# Altium integrated library con-vg.IntLib: 123 symbols (part 4 of 5)

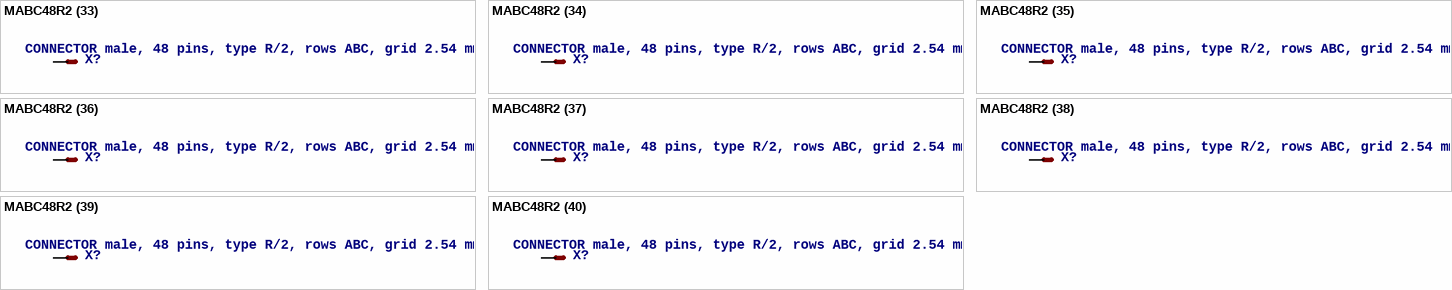
[diagram p69: symbol MABC48R2]

## MABC48R2
designator X?, comment CONNECTOR male, 48 pins, type R/2, rows ABC, grid 2.54 mm
footprint MABC48R2
part A pins: A1 S
part B pins: A2 S
part C pins: A3 S
part D pins: A4 S
part E pins: A5 S
part F pins: A6 S
part G pins: A7 S
part H pins: A8 S
part I pins: A9 S
part J pins: A10 S
part K pins: A11 S
part L pins: A12 S
part M pins: A13 S
part N pins: A14 S
part O pins: A15 S
part P pins: A16 S
part Q pins: B1 S
part R pins: B2 S
part S pins: B3 S
part T pins: B4 S
part U pins: B5 S
part V pins: B6 S
part W pins: B7 S
part X pins: B8 S
part Y pins: B9 S
part Z pins: B10 S
part 27 pins: B11 S
part 28 pins: B12 S
part 29 pins: B13 S
part 30 pins: B14 S
part 31 pins: B15 S
part 32 pins: B16 S
part 33 pins: C1 S
part 34 pins: C2 S
part 35 pins: C3 S
part 36 pins: C4 S
part 37 pins: C5 S
part 38 pins: C6 S
part 39 pins: C7 S
part 40 pins: C8 S
part 41 pins: C9 S
part 42 pins: C10 S
part 43 pins: C11 S
part 44 pins: C12 S
part 45 pins: C13 S
part 46 pins: C14 S
part 47 pins: C15 S
part 48 pins: C16 S

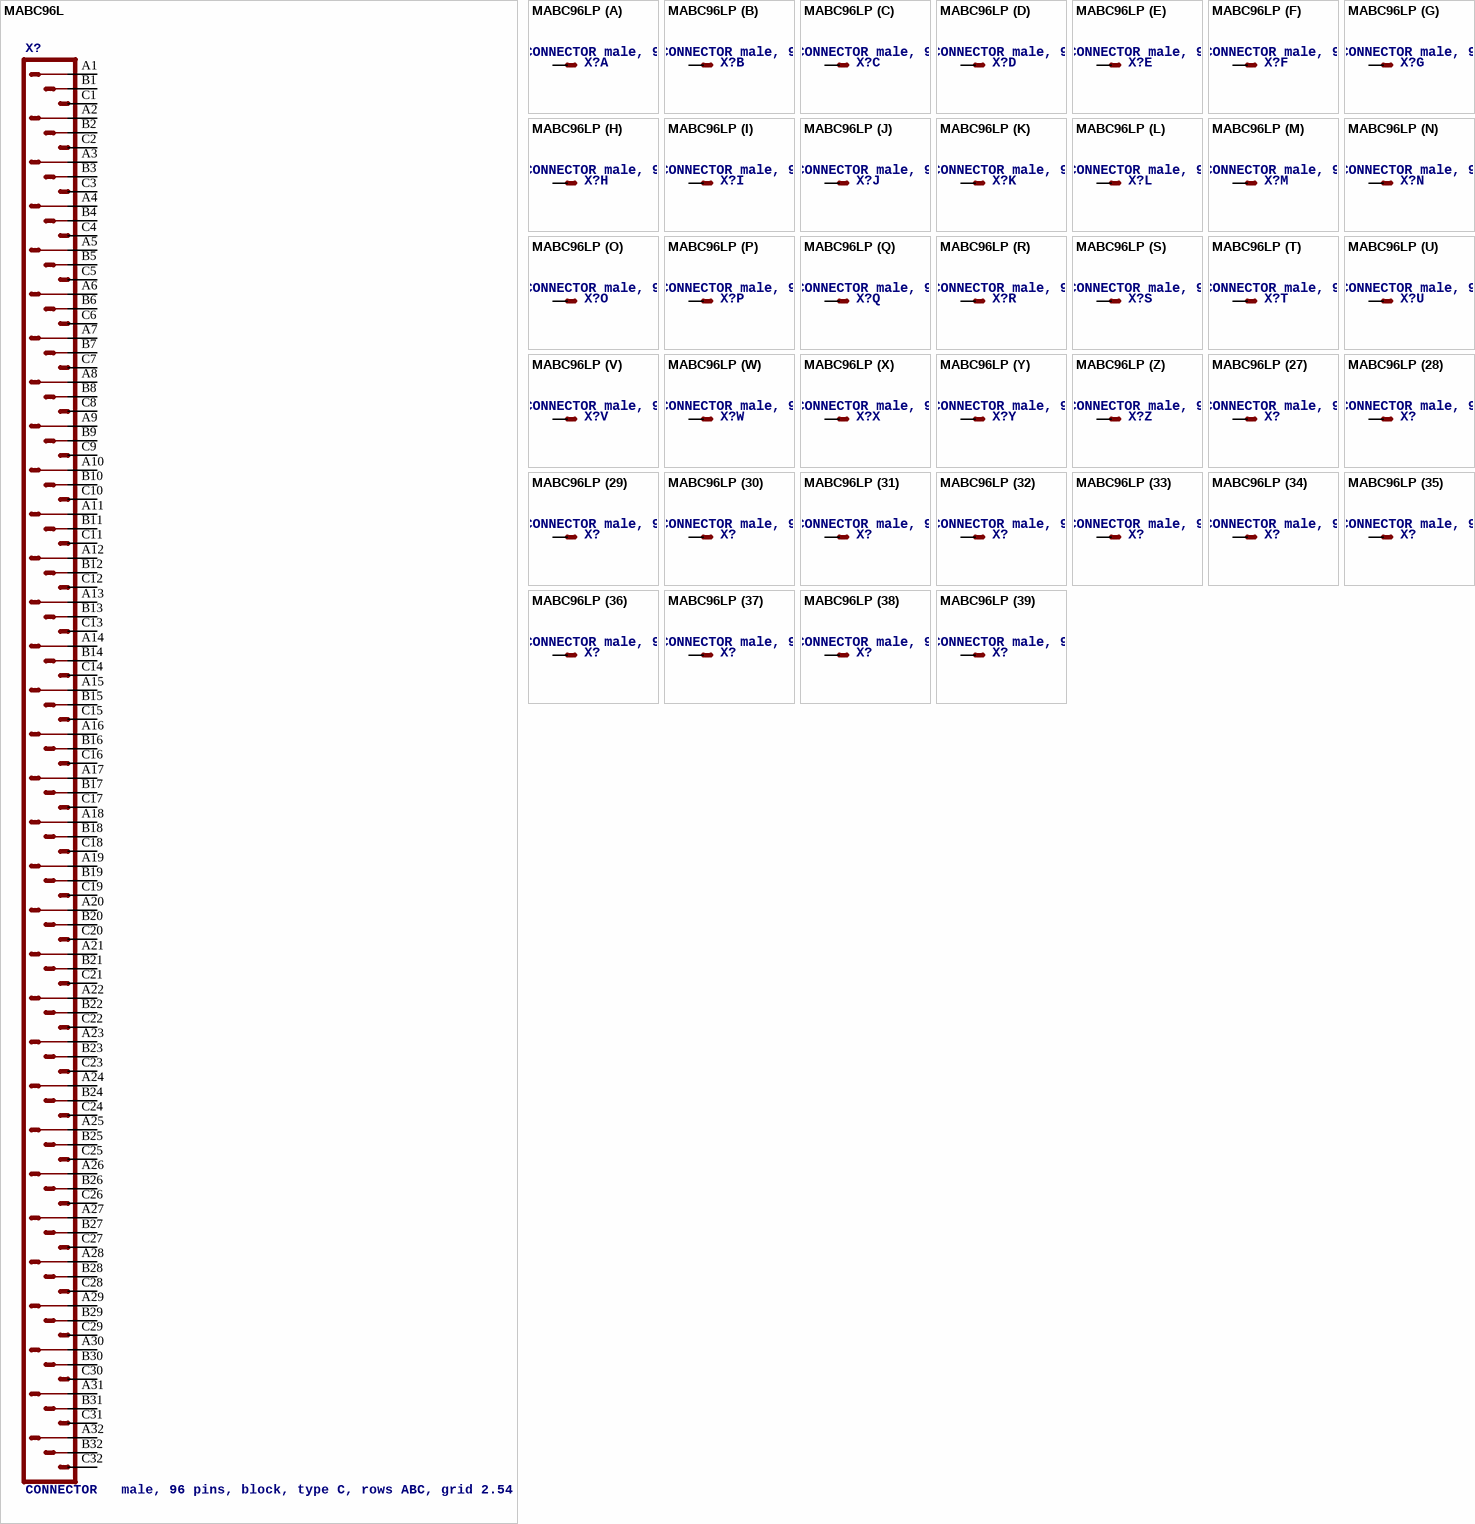
[diagram p70: symbols MABC96L to MABC96LP]

## MABC96L
designator X?, comment CONNECTOR   male, 96 pins, block, type C, rows ABC, grid 2.54 mm
footprint MABC96L
pins: A1, A2, A3, A4, A5, A6, A7, A8, A9, A10, A11, A12, A13, A14, A15, A16, A17, A18, A19, A20, A21, A22, A23, A24, A25, A26, A27, A28, A29, A30, A31, A32, B1, B2, B3, B4, B5, B6, B7, B8, B9, B10, B11, B12, B13, B14, B15, B16, B17, B18, B19, B20, B21, B22, B23, B24, B25, B26, B27, B28, B29, B30, B31, B32, C1, C2, C3, C4, C5, C6, C7, C8, C9, C10, C11, C12, C13, C14, C15, C16, C17, C18, C19, C20, C21, C22, C23, C24, C25, C26, C27, C28, C29, C30, C31, C32

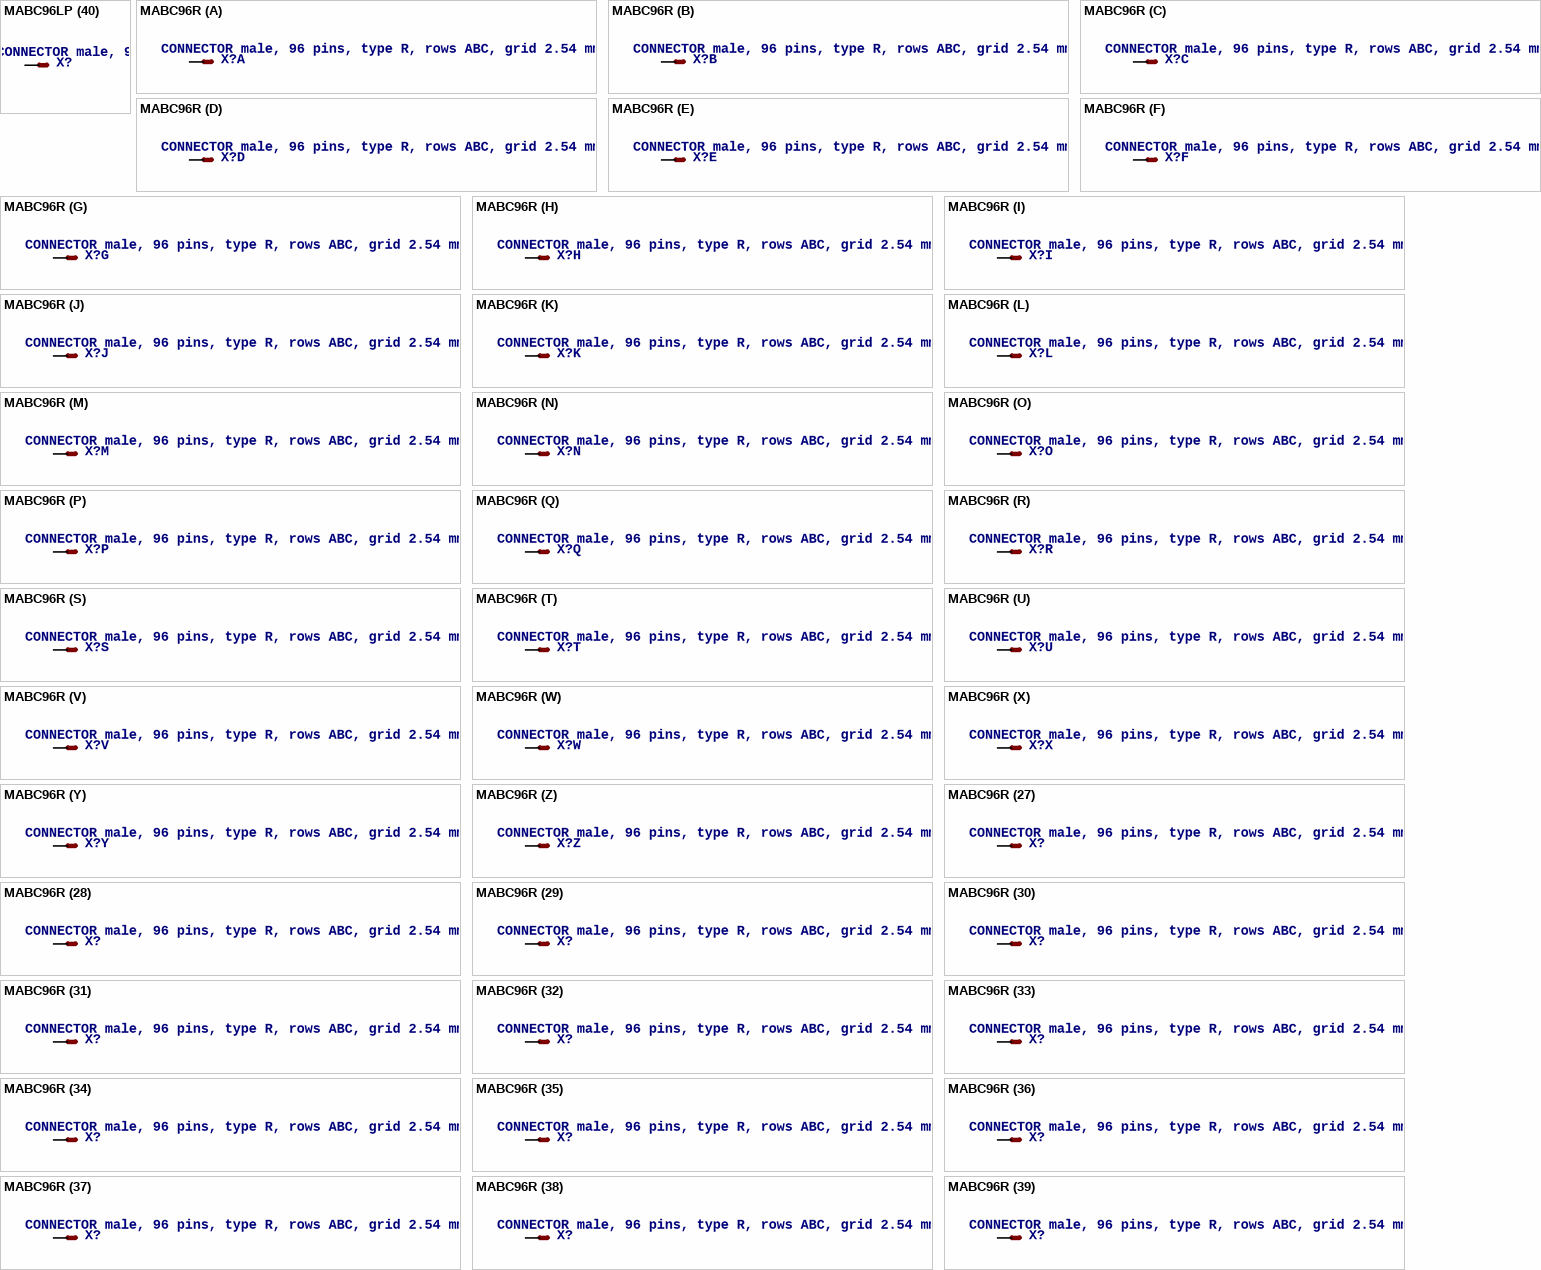
[diagram p71: symbols MABC96LP to MABC96R]

## MABC96LP
designator X?, comment CONNECTOR male, 96 pins, type C, rows ABC, grid 2.54 mm with mounting clip
footprint MABC96LP
part A pins: A1 S
part B pins: A2 S
part C pins: A3 S
part D pins: A4 S
part E pins: A5 S
part F pins: A6 S
part G pins: A7 S
part H pins: A8 S
part I pins: A9 S
part J pins: A10 S
part K pins: A11 S
part L pins: A12 S
part M pins: A13 S
part N pins: A14 S
part O pins: A15 S
part P pins: A16 S
part Q pins: A17 S
part R pins: A18 S
part S pins: A19 S
part T pins: A20 S
part U pins: A21 S
part V pins: A22 S
part W pins: A23 S
part X pins: A24 S
part Y pins: A25 S
part Z pins: A26 S
part 27 pins: A27 S
part 28 pins: A28 S
part 29 pins: A29 S
part 30 pins: A30 S
part 31 pins: A31 S
part 32 pins: A32 S
part 33 pins: B1 S
part 34 pins: B2 S
part 35 pins: B3 S
part 36 pins: B4 S
part 37 pins: B5 S
part 38 pins: B6 S
part 39 pins: B7 S
part 40 pins: B8 S
part 41 pins: B9 S
part 42 pins: B10 S
part 43 pins: B11 S
part 44 pins: B12 S
part 45 pins: B13 S
part 46 pins: B14 S
part 47 pins: B15 S
part 48 pins: B16 S
part 49 pins: B17 S
part 50 pins: B18 S
part 51 pins: B19 S
part 52 pins: B20 S
part 53 pins: B21 S
part 54 pins: B22 S
part 55 pins: B23 S
part 56 pins: B24 S
part 57 pins: B25 S
part 58 pins: B26 S
part 59 pins: B27 S
part 60 pins: B28 S
part 61 pins: B29 S
part 62 pins: B30 S
part 63 pins: B31 S
part 64 pins: B32 S
part 65 pins: C1 S
part 66 pins: C2 S
part 67 pins: C3 S
part 68 pins: C4 S
part 69 pins: C5 S
part 70 pins: C6 S
part 71 pins: C7 S
part 72 pins: C8 S
part 73 pins: C9 S
part 74 pins: C10 S
part 75 pins: C11 S
part 76 pins: C12 S
part 77 pins: C13 S
part 78 pins: C14 S
part 79 pins: C15 S
part 80 pins: C16 S
part 81 pins: C17 S
part 82 pins: C18 S
part 83 pins: C19 S
part 84 pins: C20 S
part 85 pins: C21 S
part 86 pins: C22 S
part 87 pins: C23 S
part 88 pins: C24 S
part 89 pins: C25 S
part 90 pins: C26 S
part 91 pins: C27 S
part 92 pins: C28 S
part 93 pins: C29 S
part 94 pins: C30 S
part 95 pins: C31 S
part 96 pins: C32 S

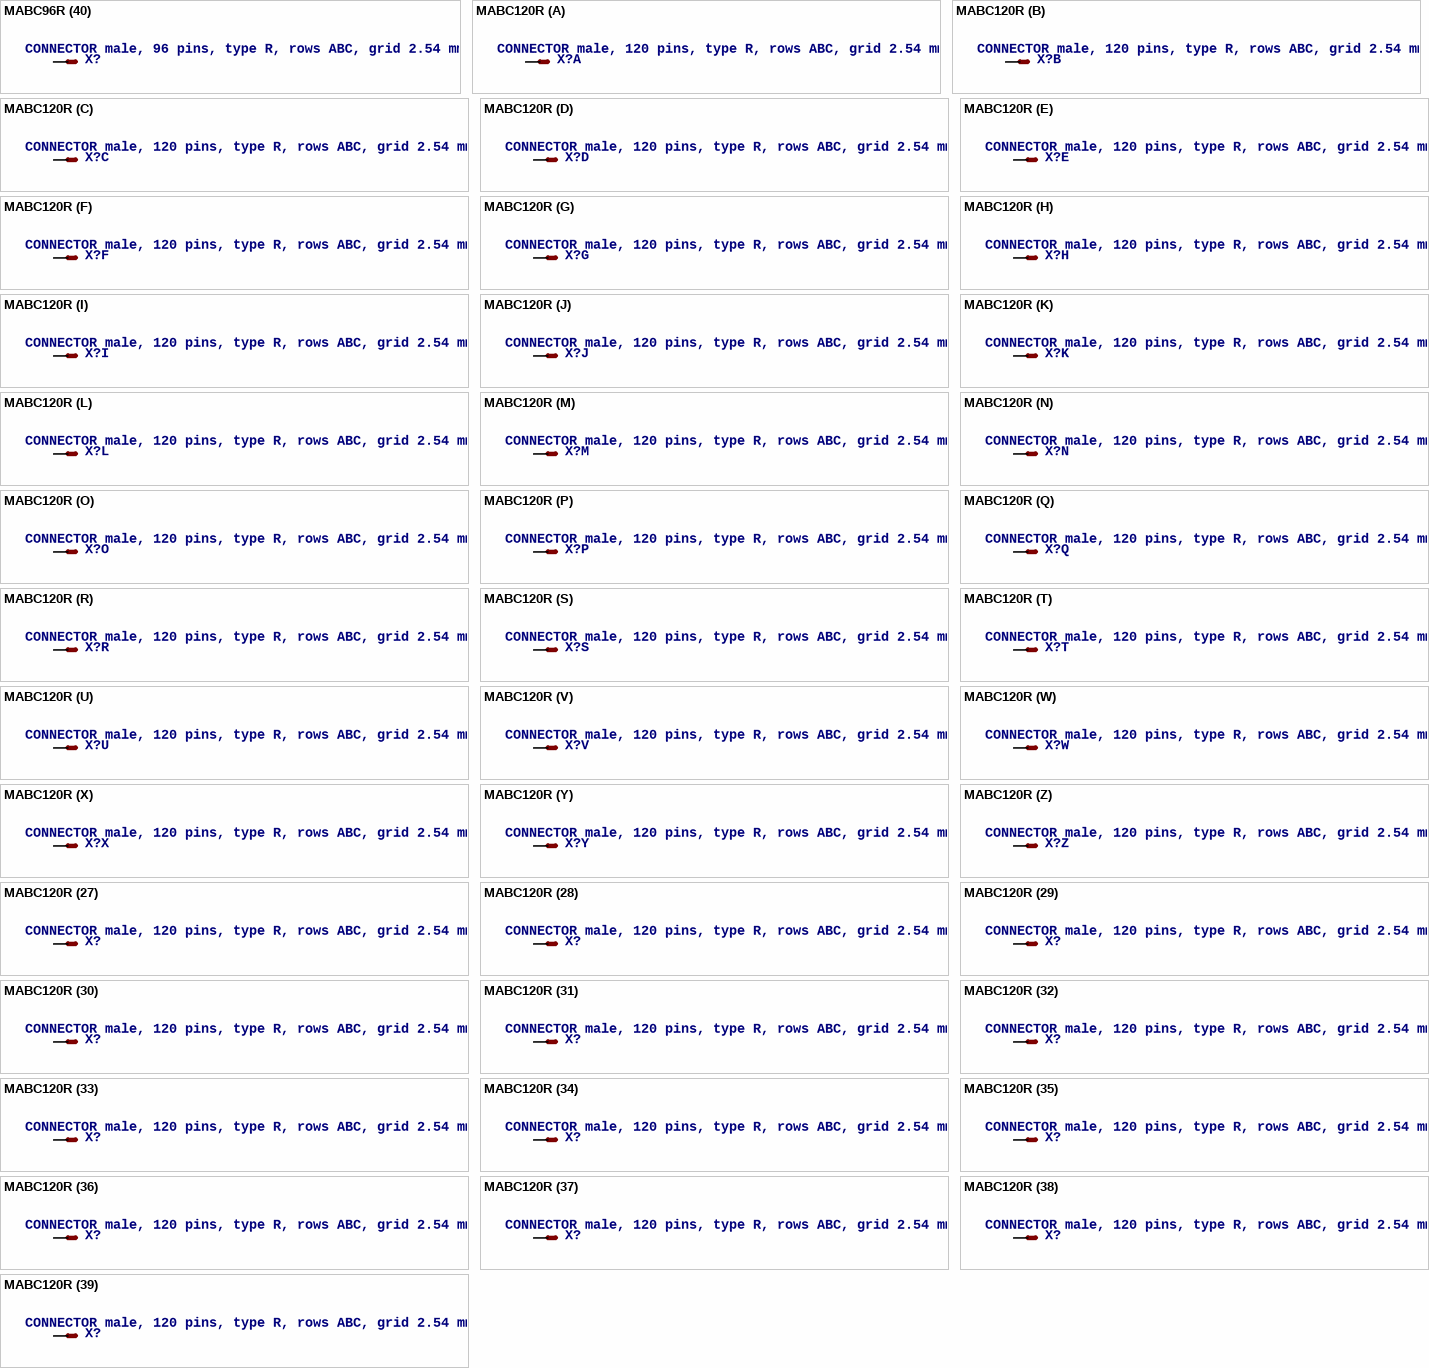
[diagram p72: symbols MABC96R to MABC120R]

## MABC96R
designator X?, comment CONNECTOR male, 96 pins, type R, rows ABC, grid 2.54 mm
footprint MABC96R
part A pins: A1 S
part B pins: A2 S
part C pins: A3 S
part D pins: A4 S
part E pins: A5 S
part F pins: A6 S
part G pins: A7 S
part H pins: A8 S
part I pins: A9 S
part J pins: A10 S
part K pins: A11 S
part L pins: A12 S
part M pins: A13 S
part N pins: A14 S
part O pins: A15 S
part P pins: A16 S
part Q pins: A17 S
part R pins: A18 S
part S pins: A19 S
part T pins: A20 S
part U pins: A21 S
part V pins: A22 S
part W pins: A23 S
part X pins: A24 S
part Y pins: A25 S
part Z pins: A26 S
part 27 pins: A27 S
part 28 pins: A28 S
part 29 pins: A29 S
part 30 pins: A30 S
part 31 pins: A31 S
part 32 pins: A32 S
part 33 pins: B1 S
part 34 pins: B2 S
part 35 pins: B3 S
part 36 pins: B4 S
part 37 pins: B5 S
part 38 pins: B6 S
part 39 pins: B7 S
part 40 pins: B8 S
part 41 pins: B9 S
part 42 pins: B10 S
part 43 pins: B11 S
part 44 pins: B12 S
part 45 pins: B13 S
part 46 pins: B14 S
part 47 pins: B15 S
part 48 pins: B16 S
part 49 pins: B17 S
part 50 pins: B18 S
part 51 pins: B19 S
part 52 pins: B20 S
part 53 pins: B21 S
part 54 pins: B22 S
part 55 pins: B23 S
part 56 pins: B24 S
part 57 pins: B25 S
part 58 pins: B26 S
part 59 pins: B27 S
part 60 pins: B28 S
part 61 pins: B29 S
part 62 pins: B30 S
part 63 pins: B31 S
part 64 pins: B32 S
part 65 pins: C1 S
part 66 pins: C2 S
part 67 pins: C3 S
part 68 pins: C4 S
part 69 pins: C5 S
part 70 pins: C6 S
part 71 pins: C7 S
part 72 pins: C8 S
part 73 pins: C9 S
part 74 pins: C10 S
part 75 pins: C11 S
part 76 pins: C12 S
part 77 pins: C13 S
part 78 pins: C14 S
part 79 pins: C15 S
part 80 pins: C16 S
part 81 pins: C17 S
part 82 pins: C18 S
part 83 pins: C19 S
part 84 pins: C20 S
part 85 pins: C21 S
part 86 pins: C22 S
part 87 pins: C23 S
part 88 pins: C24 S
part 89 pins: C25 S
part 90 pins: C26 S
part 91 pins: C27 S
part 92 pins: C28 S
part 93 pins: C29 S
part 94 pins: C30 S
part 95 pins: C31 S
part 96 pins: C32 S

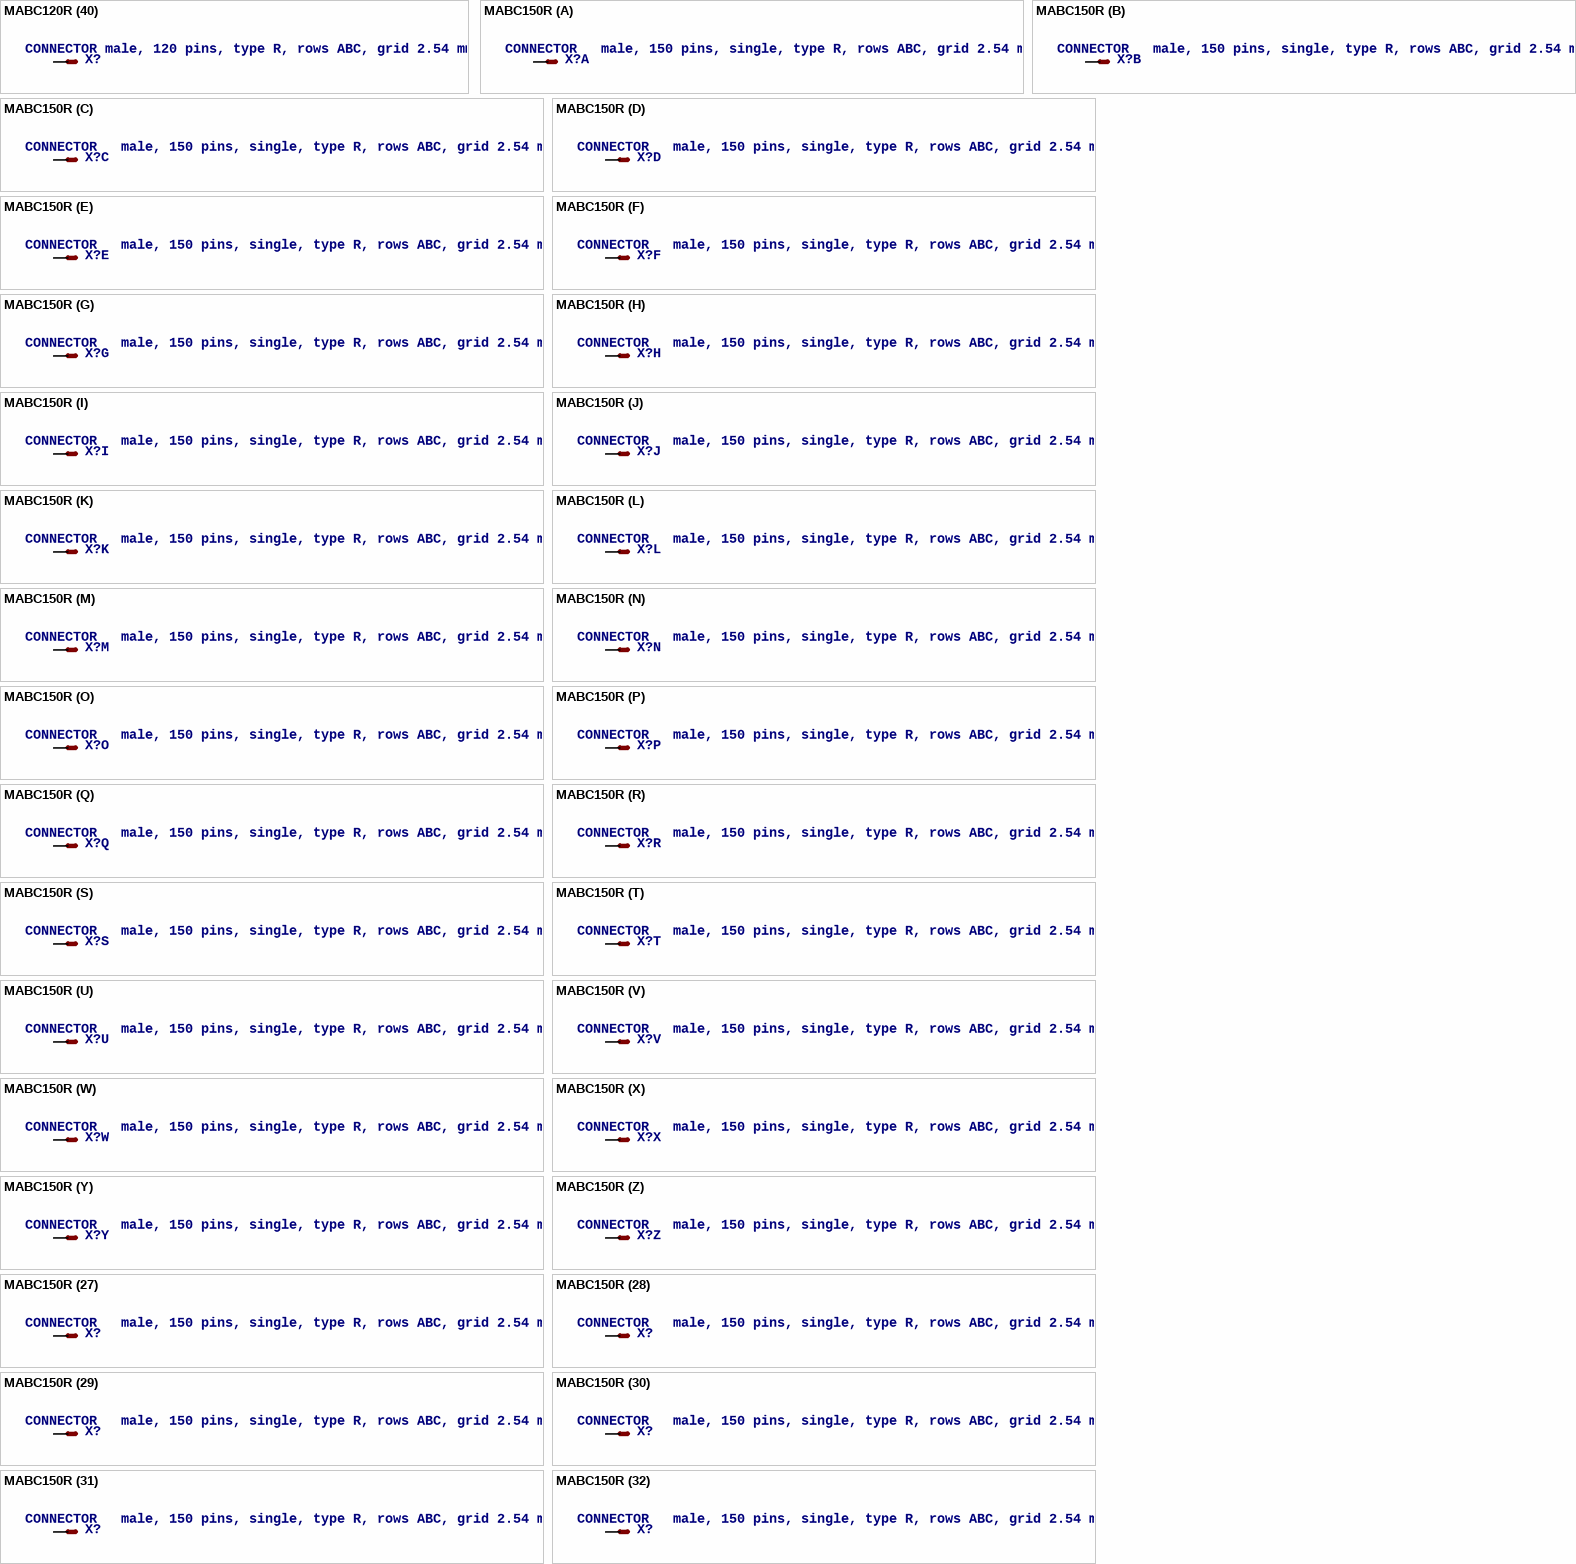
[diagram p73: symbols MABC120R to MABC150R]

## MABC120R
designator X?, comment CONNECTOR male, 120 pins, type R, rows ABC, grid 2.54 mm
footprint MABC120R
part A pins: A1 S
part B pins: A2 S
part C pins: A3 S
part D pins: A4 S
part E pins: A5 S
part F pins: A6 S
part G pins: A7 S
part H pins: A8 S
part I pins: A9 S
part J pins: A10 S
part K pins: A11 S
part L pins: A12 S
part M pins: A13 S
part N pins: A14 S
part O pins: A15 S
part P pins: A16 S
part Q pins: A17 S
part R pins: A18 S
part S pins: A19 S
part T pins: A20 S
part U pins: A21 S
part V pins: A22 S
part W pins: A23 S
part X pins: A24 S
part Y pins: A25 S
part Z pins: A26 S
part 27 pins: A27 S
part 28 pins: A28 S
part 29 pins: A29 S
part 30 pins: A30 S
part 31 pins: A31 S
part 32 pins: A32 S
part 33 pins: B1 S
part 34 pins: B2 S
part 35 pins: B3 S
part 36 pins: B4 S
part 37 pins: B5 S
part 38 pins: B6 S
part 39 pins: B7 S
part 40 pins: B8 S
part 41 pins: B9 S
part 42 pins: B10 S
part 43 pins: B11 S
part 44 pins: B12 S
part 45 pins: B13 S
part 46 pins: B14 S
part 47 pins: B15 S
part 48 pins: B16 S
part 49 pins: B17 S
part 50 pins: B18 S
part 51 pins: B19 S
part 52 pins: B20 S
part 53 pins: B21 S
part 54 pins: B22 S
part 55 pins: B23 S
part 56 pins: B24 S
part 57 pins: B25 S
part 58 pins: B26 S
part 59 pins: B27 S
part 60 pins: B28 S
part 61 pins: B29 S
part 62 pins: B30 S
part 63 pins: B31 S
part 64 pins: B32 S
part 65 pins: C1 S
part 66 pins: C2 S
part 67 pins: C3 S
part 68 pins: C4 S
part 69 pins: C5 S
part 70 pins: C6 S
part 71 pins: C7 S
part 72 pins: C8 S
part 73 pins: C9 S
part 74 pins: C10 S
part 75 pins: C11 S
part 76 pins: C12 S
part 77 pins: C13 S
part 78 pins: C14 S
part 79 pins: C15 S
part 80 pins: C16 S
part 81 pins: C17 S
part 82 pins: C18 S
part 83 pins: C19 S
part 84 pins: C20 S
part 85 pins: C21 S
part 86 pins: C22 S
part 87 pins: C23 S
part 88 pins: C24 S
part 89 pins: C25 S
part 90 pins: C26 S
part 91 pins: C27 S
part 92 pins: C28 S
part 93 pins: C29 S
part 94 pins: C30 S
part 95 pins: C31 S
part 96 pins: C32 S
part 97 pins: A33 S
part 98 pins: A34 S
part 99 pins: A35 S
part 100 pins: A36 S
part 101 pins: A37 S
part 102 pins: A38 S
part 103 pins: A39 S
part 104 pins: A40 S
part 105 pins: B33 S
part 106 pins: B34 S
part 107 pins: B35 S
part 108 pins: B36 S
part 109 pins: B37 S
part 110 pins: B38 S
part 111 pins: B39 S
part 112 pins: B40 S
part 113 pins: C33 S
part 114 pins: C34 S
part 115 pins: C35 S
part 116 pins: C36 S
part 117 pins: C37 S
part 118 pins: C38 S
part 119 pins: C39 S
part 120 pins: C40 S

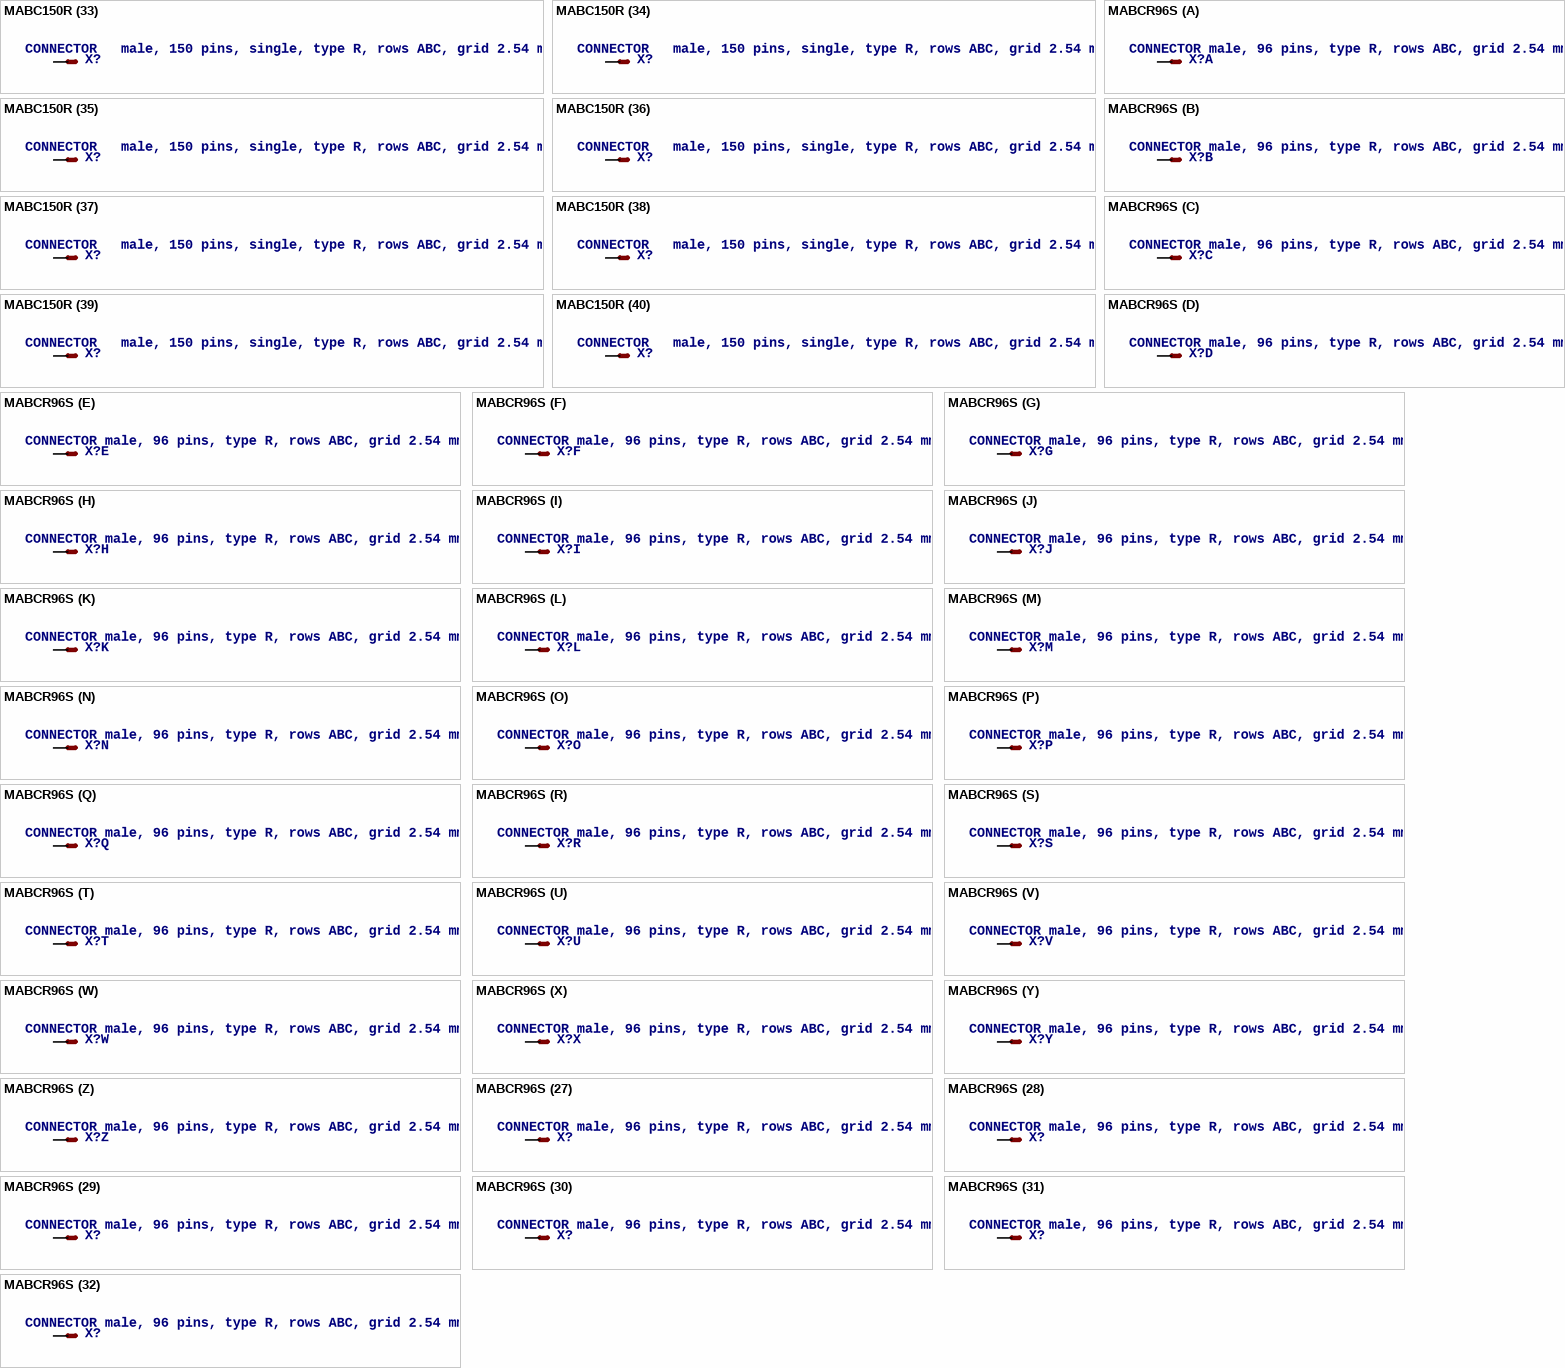
[diagram p74: symbols MABC150R to MABCR96S]

## MABC150R
designator X?, comment CONNECTOR   male, 150 pins, single, type R, rows ABC, grid 2.54 mm
footprint MABC150R
part A pins: A1 S
part B pins: A2 S
part C pins: A3 S
part D pins: A4 S
part E pins: A5 S
part F pins: A6 S
part G pins: A7 S
part H pins: A8 S
part I pins: A9 S
part J pins: A10 S
part K pins: A11 S
part L pins: A12 S
part M pins: A13 S
part N pins: A14 S
part O pins: A15 S
part P pins: A16 S
part Q pins: A17 S
part R pins: A18 S
part S pins: A19 S
part T pins: A20 S
part U pins: A21 S
part V pins: A22 S
part W pins: A23 S
part X pins: A24 S
part Y pins: A25 S
part Z pins: A26 S
part 27 pins: A27 S
part 28 pins: A28 S
part 29 pins: A29 S
part 30 pins: A30 S
part 31 pins: A31 S
part 32 pins: A32 S
part 33 pins: A33 S
part 34 pins: A34 S
part 35 pins: A35 S
part 36 pins: A36 S
part 37 pins: A37 S
part 38 pins: A38 S
part 39 pins: A39 S
part 40 pins: A40 S
part 41 pins: A41 S
part 42 pins: A42 S
part 43 pins: A43 S
part 44 pins: A44 S
part 45 pins: A45 S
part 46 pins: A46 S
part 47 pins: A47 S
part 48 pins: A48 S
part 49 pins: A49 S
part 50 pins: A50 S
part 51 pins: B1 S
part 52 pins: B2 S
part 53 pins: B3 S
part 54 pins: B4 S
part 55 pins: B5 S
part 56 pins: B6 S
part 57 pins: B7 S
part 58 pins: B8 S
part 59 pins: B9 S
part 60 pins: B10 S
part 61 pins: B11 S
part 62 pins: B12 S
part 63 pins: B13 S
part 64 pins: B14 S
part 65 pins: B15 S
part 66 pins: B16 S
part 67 pins: B17 S
part 68 pins: B18 S
part 69 pins: B19 S
part 70 pins: B20 S
part 71 pins: B21 S
part 72 pins: B22 S
part 73 pins: B23 S
part 74 pins: B24 S
part 75 pins: B25 S
part 76 pins: B26 S
part 77 pins: B27 S
part 78 pins: B28 S
part 79 pins: B29 S
part 80 pins: B30 S
part 81 pins: B31 S
part 82 pins: B32 S
part 83 pins: B33 S
part 84 pins: B34 S
part 85 pins: B35 S
part 86 pins: B36 S
part 87 pins: B37 S
part 88 pins: B38 S
part 89 pins: B39 S
part 90 pins: B40 S
part 91 pins: B41 S
part 92 pins: B42 S
part 93 pins: B43 S
part 94 pins: B44 S
part 95 pins: B45 S
part 96 pins: B46 S
part 97 pins: B47 S
part 98 pins: B48 S
part 99 pins: B49 S
part 100 pins: B50 S
part 101 pins: C1 S
part 102 pins: C2 S
part 103 pins: C3 S
part 104 pins: C4 S
part 105 pins: C5 S
part 106 pins: C6 S
part 107 pins: C7 S
part 108 pins: C8 S
part 109 pins: C9 S
part 110 pins: C10 S
part 111 pins: C11 S
part 112 pins: C12 S
part 113 pins: C13 S
part 114 pins: C14 S
part 115 pins: C15 S
part 116 pins: C16 S
part 117 pins: C17 S
part 118 pins: C18 S
part 119 pins: C19 S
part 120 pins: C20 S
part 121 pins: C21 S
part 122 pins: C22 S
part 123 pins: C23 S
part 124 pins: C24 S
part 125 pins: C25 S
part 126 pins: C26 S
part 127 pins: C27 S
part 128 pins: C28 S
part 129 pins: C29 S
part 130 pins: C30 S
part 131 pins: C31 S
part 132 pins: C32 S
part 133 pins: C33 S
part 134 pins: C34 S
part 135 pins: C35 S
part 136 pins: C36 S
part 137 pins: C37 S
part 138 pins: C38 S
part 139 pins: C39 S
part 140 pins: C40 S
part 141 pins: C41 S
part 142 pins: C42 S
part 143 pins: C43 S
part 144 pins: C44 S
part 145 pins: C45 S
part 146 pins: C46 S
part 147 pins: C47 S
part 148 pins: C48 S
part 149 pins: C49 S
part 150 pins: C50 S

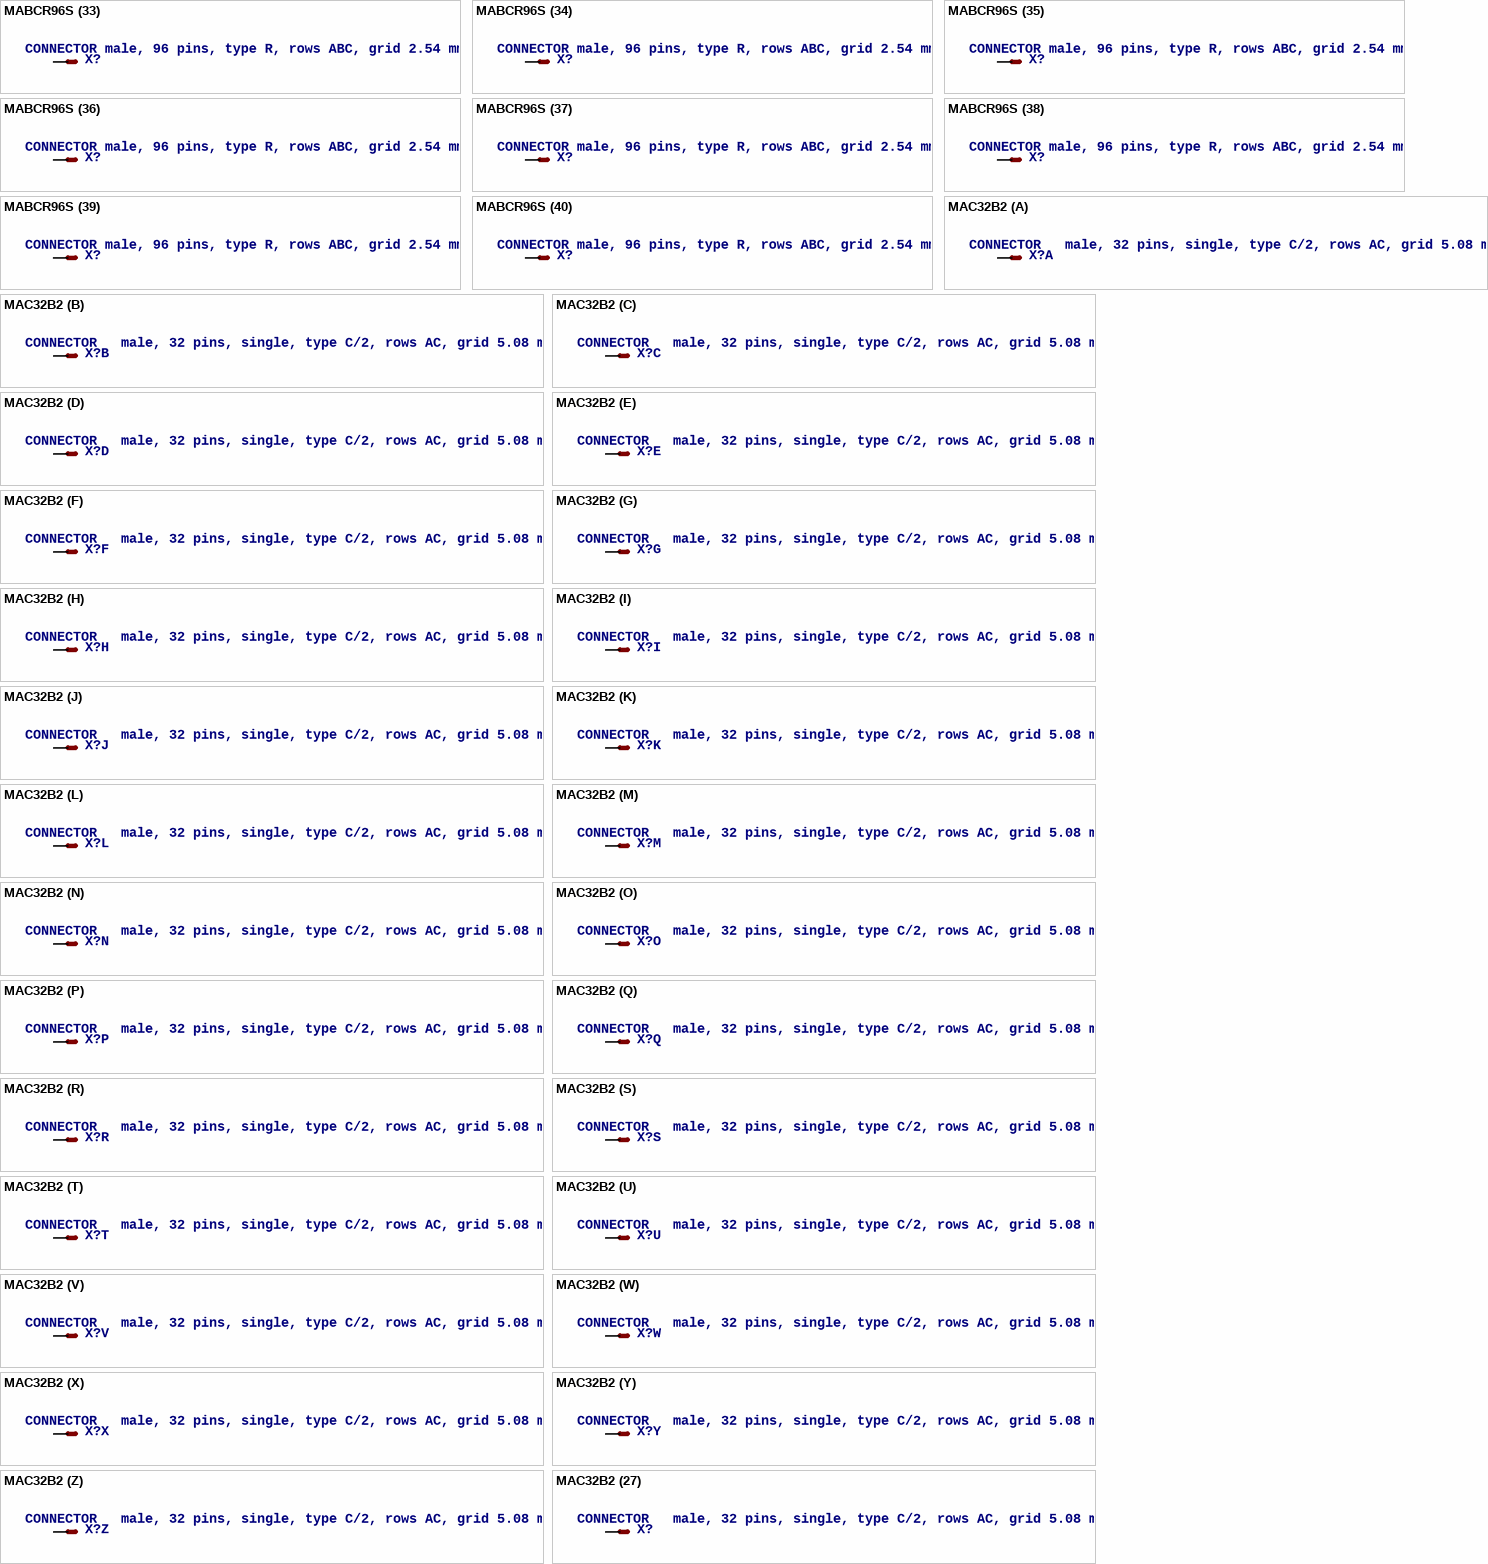
[diagram p75: symbols MABCR96S to MAC32B2]

## MABCR96S
designator X?, comment CONNECTOR male, 96 pins, type R, rows ABC, grid 2.54 mm
footprint MABCR96S
part A pins: A1 S
part B pins: A2 S
part C pins: A3 S
part D pins: A4 S
part E pins: A5 S
part F pins: A6 S
part G pins: A7 S
part H pins: A8 S
part I pins: A9 S
part J pins: A10 S
part K pins: A11 S
part L pins: A12 S
part M pins: A13 S
part N pins: A14 S
part O pins: A15 S
part P pins: A16 S
part Q pins: A17 S
part R pins: A18 S
part S pins: A19 S
part T pins: A20 S
part U pins: A21 S
part V pins: A22 S
part W pins: A23 S
part X pins: A24 S
part Y pins: A25 S
part Z pins: A26 S
part 27 pins: A27 S
part 28 pins: A28 S
part 29 pins: A29 S
part 30 pins: A30 S
part 31 pins: A31 S
part 32 pins: A32 S
part 33 pins: B1 S
part 34 pins: B2 S
part 35 pins: B3 S
part 36 pins: B4 S
part 37 pins: B5 S
part 38 pins: B6 S
part 39 pins: B7 S
part 40 pins: B8 S
part 41 pins: B9 S
part 42 pins: B10 S
part 43 pins: B11 S
part 44 pins: B12 S
part 45 pins: B13 S
part 46 pins: B14 S
part 47 pins: B15 S
part 48 pins: B16 S
part 49 pins: B17 S
part 50 pins: B18 S
part 51 pins: B19 S
part 52 pins: B20 S
part 53 pins: B21 S
part 54 pins: B22 S
part 55 pins: B23 S
part 56 pins: B24 S
part 57 pins: B25 S
part 58 pins: B26 S
part 59 pins: B27 S
part 60 pins: B28 S
part 61 pins: B29 S
part 62 pins: B30 S
part 63 pins: B31 S
part 64 pins: B32 S
part 65 pins: C1 S
part 66 pins: C2 S
part 67 pins: C3 S
part 68 pins: C4 S
part 69 pins: C5 S
part 70 pins: C6 S
part 71 pins: C7 S
part 72 pins: C8 S
part 73 pins: C9 S
part 74 pins: C10 S
part 75 pins: C11 S
part 76 pins: C12 S
part 77 pins: C13 S
part 78 pins: C14 S
part 79 pins: C15 S
part 80 pins: C16 S
part 81 pins: C17 S
part 82 pins: C18 S
part 83 pins: C19 S
part 84 pins: C20 S
part 85 pins: C21 S
part 86 pins: C22 S
part 87 pins: C23 S
part 88 pins: C24 S
part 89 pins: C25 S
part 90 pins: C26 S
part 91 pins: C27 S
part 92 pins: C28 S
part 93 pins: C29 S
part 94 pins: C30 S
part 95 pins: C31 S
part 96 pins: C32 S

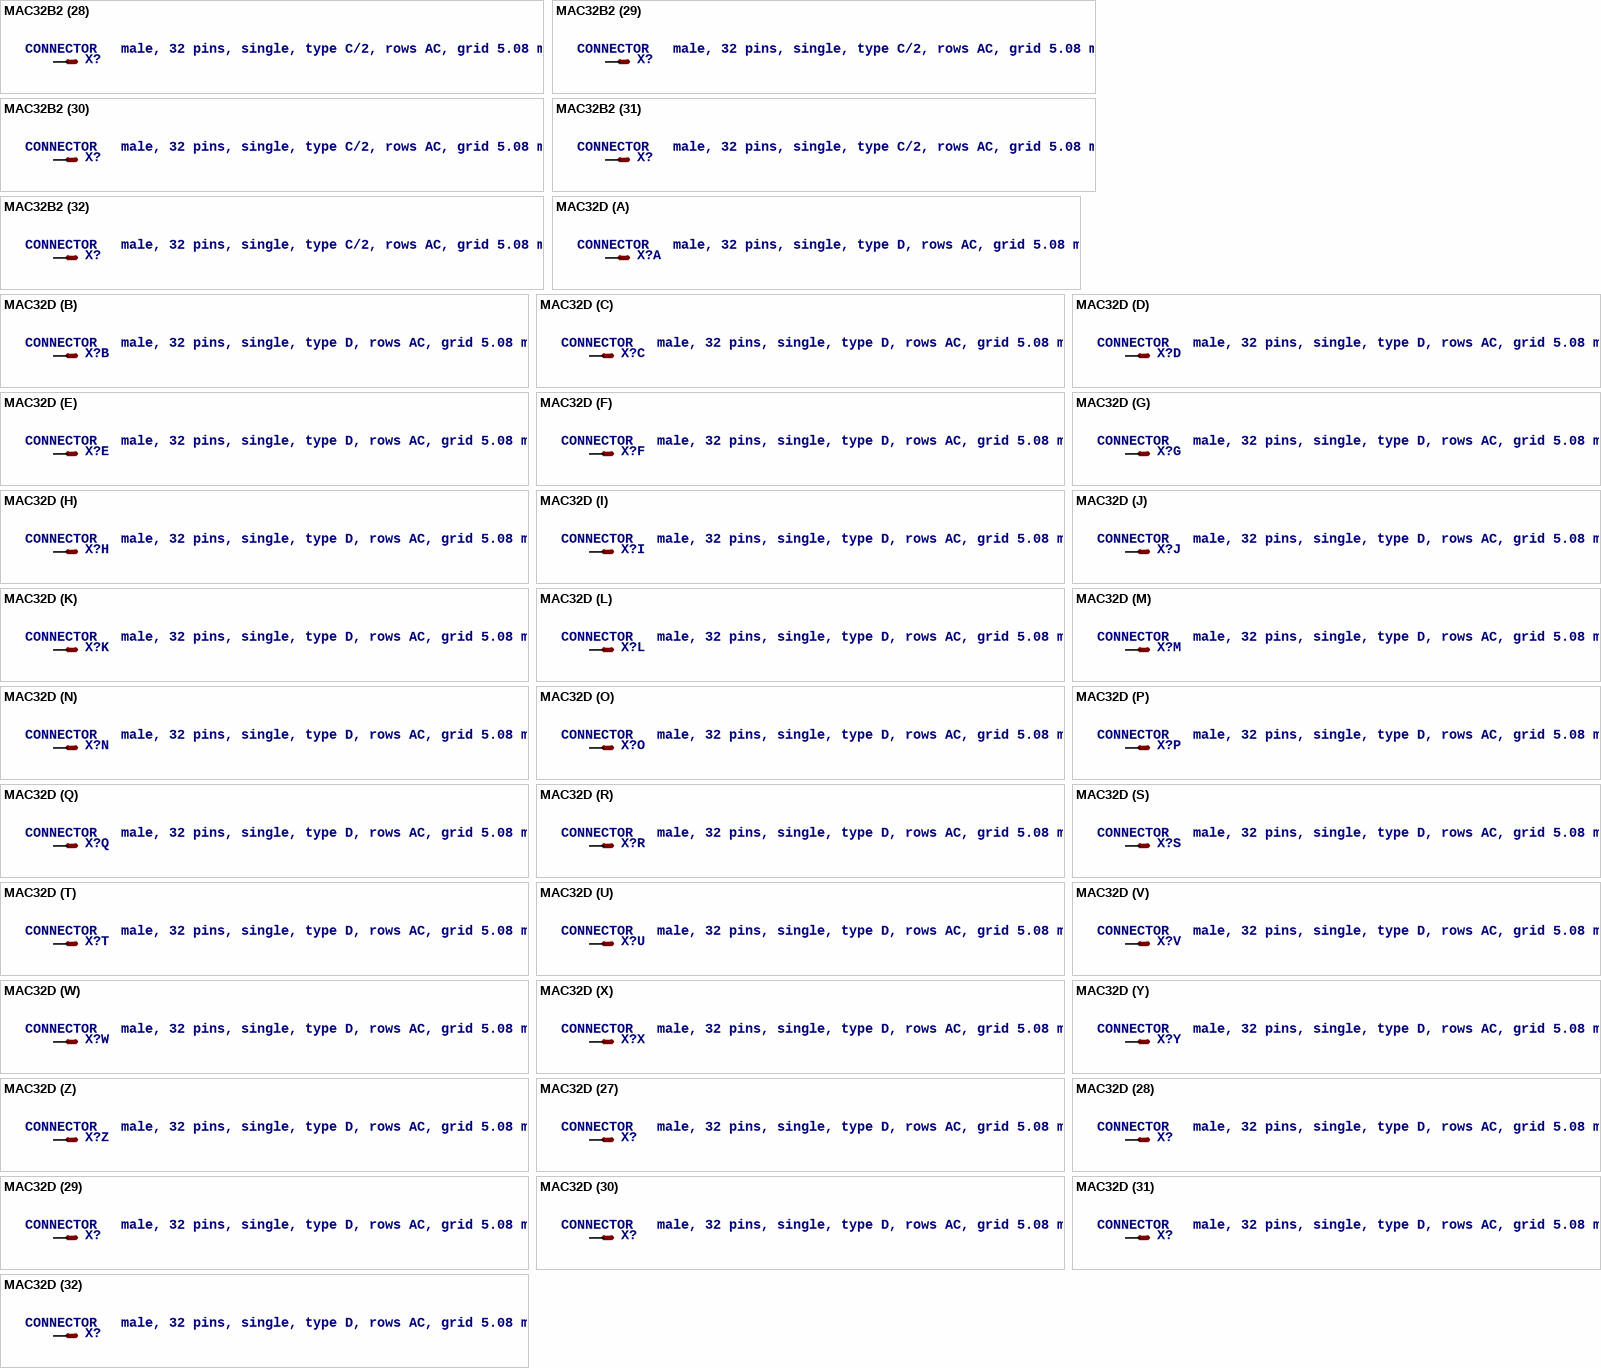
[diagram p76: symbols MAC32B2 to MAC32D]

## MAC32B2
designator X?, comment CONNECTOR   male, 32 pins, single, type C/2, rows AC, grid 5.08 mm
footprint MAC32B2
part A pins: A1 S
part B pins: A2 S
part C pins: A3 S
part D pins: A4 S
part E pins: A5 S
part F pins: A6 S
part G pins: A7 S
part H pins: A8 S
part I pins: A9 S
part J pins: A10 S
part K pins: A11 S
part L pins: A12 S
part M pins: A13 S
part N pins: A14 S
part O pins: A15 S
part P pins: A16 S
part Q pins: C1 S
part R pins: C2 S
part S pins: C3 S
part T pins: C4 S
part U pins: C5 S
part V pins: C6 S
part W pins: C7 S
part X pins: C8 S
part Y pins: C9 S
part Z pins: C10 S
part 27 pins: C11 S
part 28 pins: C12 S
part 29 pins: C13 S
part 30 pins: C14 S
part 31 pins: C15 S
part 32 pins: C16 S

## MAC32D
designator X?, comment CONNECTOR   male, 32 pins, single, type D, rows AC, grid 5.08 mm
footprint MAC32D
part A pins: A2 S
part B pins: A4 S
part C pins: A6 S
part D pins: A8 S
part E pins: A10 S
part F pins: A12 S
part G pins: A14 S
part H pins: A16 S
part I pins: A18 S
part J pins: A20 S
part K pins: A22 S
part L pins: A24 S
part M pins: A26 S
part N pins: A28 S
part O pins: A30 S
part P pins: A32 S
part Q pins: C2 S
part R pins: C4 S
part S pins: C6 S
part T pins: C8 S
part U pins: C10 S
part V pins: C12 S
part W pins: C14 S
part X pins: C16 S
part Y pins: C18 S
part Z pins: C20 S
part 27 pins: C22 S
part 28 pins: C24 S
part 29 pins: C26 S
part 30 pins: C28 S
part 31 pins: C30 S
part 32 pins: C32 S

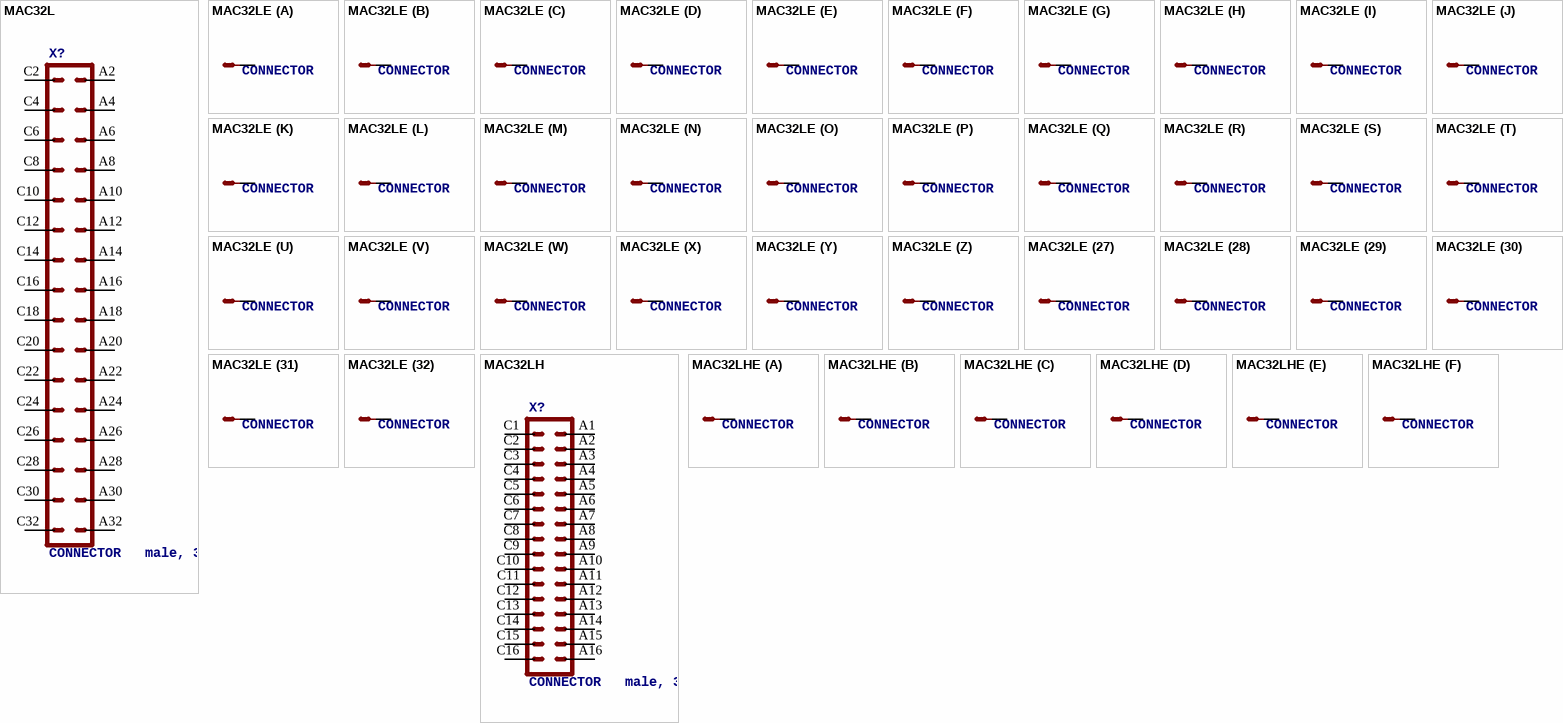
[diagram p77: symbols MAC32L to MAC32LHE]

## MAC32L
designator X?, comment CONNECTOR   male, 32 pins, block, type D, rows AC, grid 5.08 mm   with mounting clip
footprint MAC32L
pins: A2, A4, A6, A8, A10, A12, A14, A16, A18, A20, A22, A24, A26, A28, A30, A32, C2, C4, C6, C8, C10, C12, C14, C16, C18, C20, C22, C24, C26, C28, C30, C32

## MAC32LE
designator X?, comment CONNECTOR   male, 32 pins, single, type D, rows AC, grid 5.08 mm   with mounting clip
footprint MAC32L
part A pins: A2 S
part B pins: A4 S
part C pins: A6 S
part D pins: A8 S
part E pins: A10 S
part F pins: A12 S
part G pins: A14 S
part H pins: A16 S
part I pins: A18 S
part J pins: A20 S
part K pins: A22 S
part L pins: A24 S
part M pins: A26 S
part N pins: A28 S
part O pins: A30 S
part P pins: A32 S
part Q pins: C2 S
part R pins: C4 S
part S pins: C6 S
part T pins: C8 S
part U pins: C10 S
part V pins: C12 S
part W pins: C14 S
part X pins: C16 S
part Y pins: C18 S
part Z pins: C20 S
part 27 pins: C22 S
part 28 pins: C24 S
part 29 pins: C26 S
part 30 pins: C28 S
part 31 pins: C30 S
part 32 pins: C32 S

## MAC32LH
designator X?, comment CONNECTOR   male, 32 pins, block, type C/2, rows AC, grid 5.08 mm   with mounting clip
footprint MAC32LH
pins: A1, A2, A3, A4, A5, A6, A7, A8, A9, A10, A11, A12, A13, A14, A15, A16, C1, C2, C3, C4, C5, C6, C7, C8, C9, C10, C11, C12, C13, C14, C15, C16

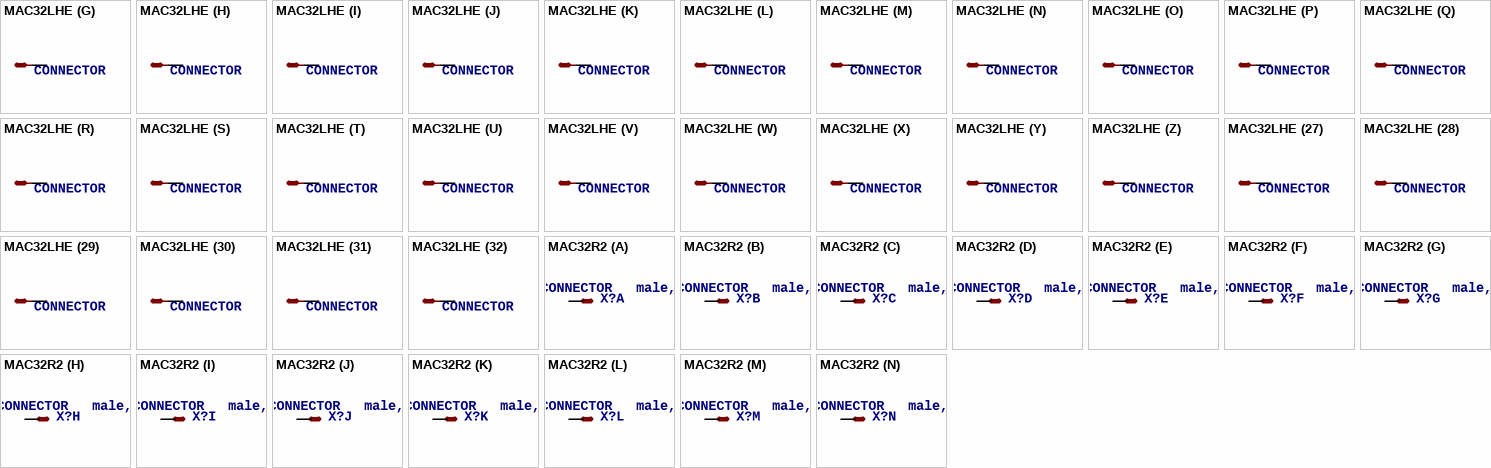
[diagram p78: symbols MAC32LHE to MAC32R2]

## MAC32LHE
designator X?, comment CONNECTOR   male, 32 pins, single, type C/2, rows AC, grid 5.08 mm   with mounting clip
footprint MAC32LH
part A pins: A1 S
part B pins: A2 S
part C pins: A3 S
part D pins: A4 S
part E pins: A5 S
part F pins: A6 S
part G pins: A7 S
part H pins: A8 S
part I pins: A9 S
part J pins: A10 S
part K pins: A11 S
part L pins: A12 S
part M pins: A13 S
part N pins: A14 S
part O pins: A15 S
part P pins: A16 S
part Q pins: C1 S
part R pins: C2 S
part S pins: C3 S
part T pins: C4 S
part U pins: C5 S
part V pins: C6 S
part W pins: C7 S
part X pins: C8 S
part Y pins: C9 S
part Z pins: C10 S
part 27 pins: C11 S
part 28 pins: C12 S
part 29 pins: C13 S
part 30 pins: C14 S
part 31 pins: C15 S
part 32 pins: C16 S

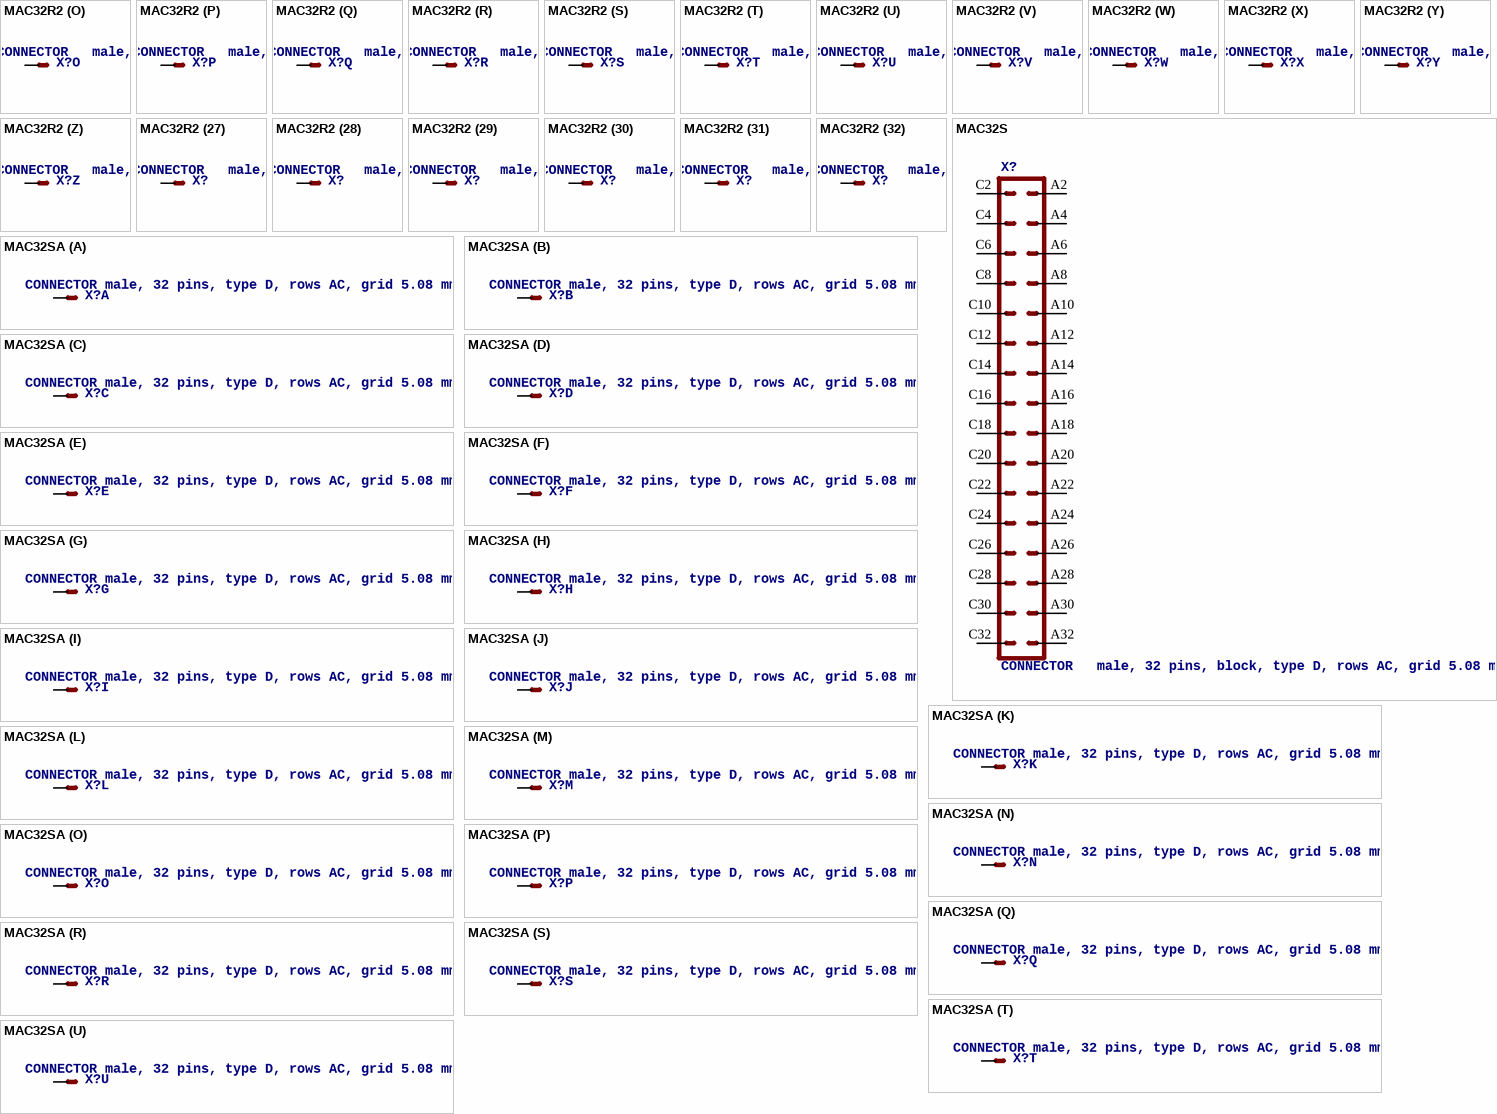
[diagram p79: symbols MAC32R2 to MAC32SA]

## MAC32R2
designator X?, comment CONNECTOR   male, 32 pins, single, type R/2, rows AC, grid 5.08 mm   with mounting clip
footprint MAC32R2
part A pins: A1 S
part B pins: A2 S
part C pins: A3 S
part D pins: A4 S
part E pins: A5 S
part F pins: A6 S
part G pins: A7 S
part H pins: A8 S
part I pins: A9 S
part J pins: A10 S
part K pins: A11 S
part L pins: A12 S
part M pins: A13 S
part N pins: A14 S
part O pins: A15 S
part P pins: A16 S
part Q pins: C1 S
part R pins: C2 S
part S pins: C3 S
part T pins: C4 S
part U pins: C5 S
part V pins: C6 S
part W pins: C7 S
part X pins: C8 S
part Y pins: C9 S
part Z pins: C10 S
part 27 pins: C11 S
part 28 pins: C12 S
part 29 pins: C13 S
part 30 pins: C14 S
part 31 pins: C15 S
part 32 pins: C16 S

## MAC32S
designator X?, comment CONNECTOR   male, 32 pins, block, type D, rows AC, grid 5.08 mm
footprint MAC32S
pins: A2, A4, A6, A8, A10, A12, A14, A16, A18, A20, A22, A24, A26, A28, A30, A32, C2, C4, C6, C8, C10, C12, C14, C16, C18, C20, C22, C24, C26, C28, C30, C32

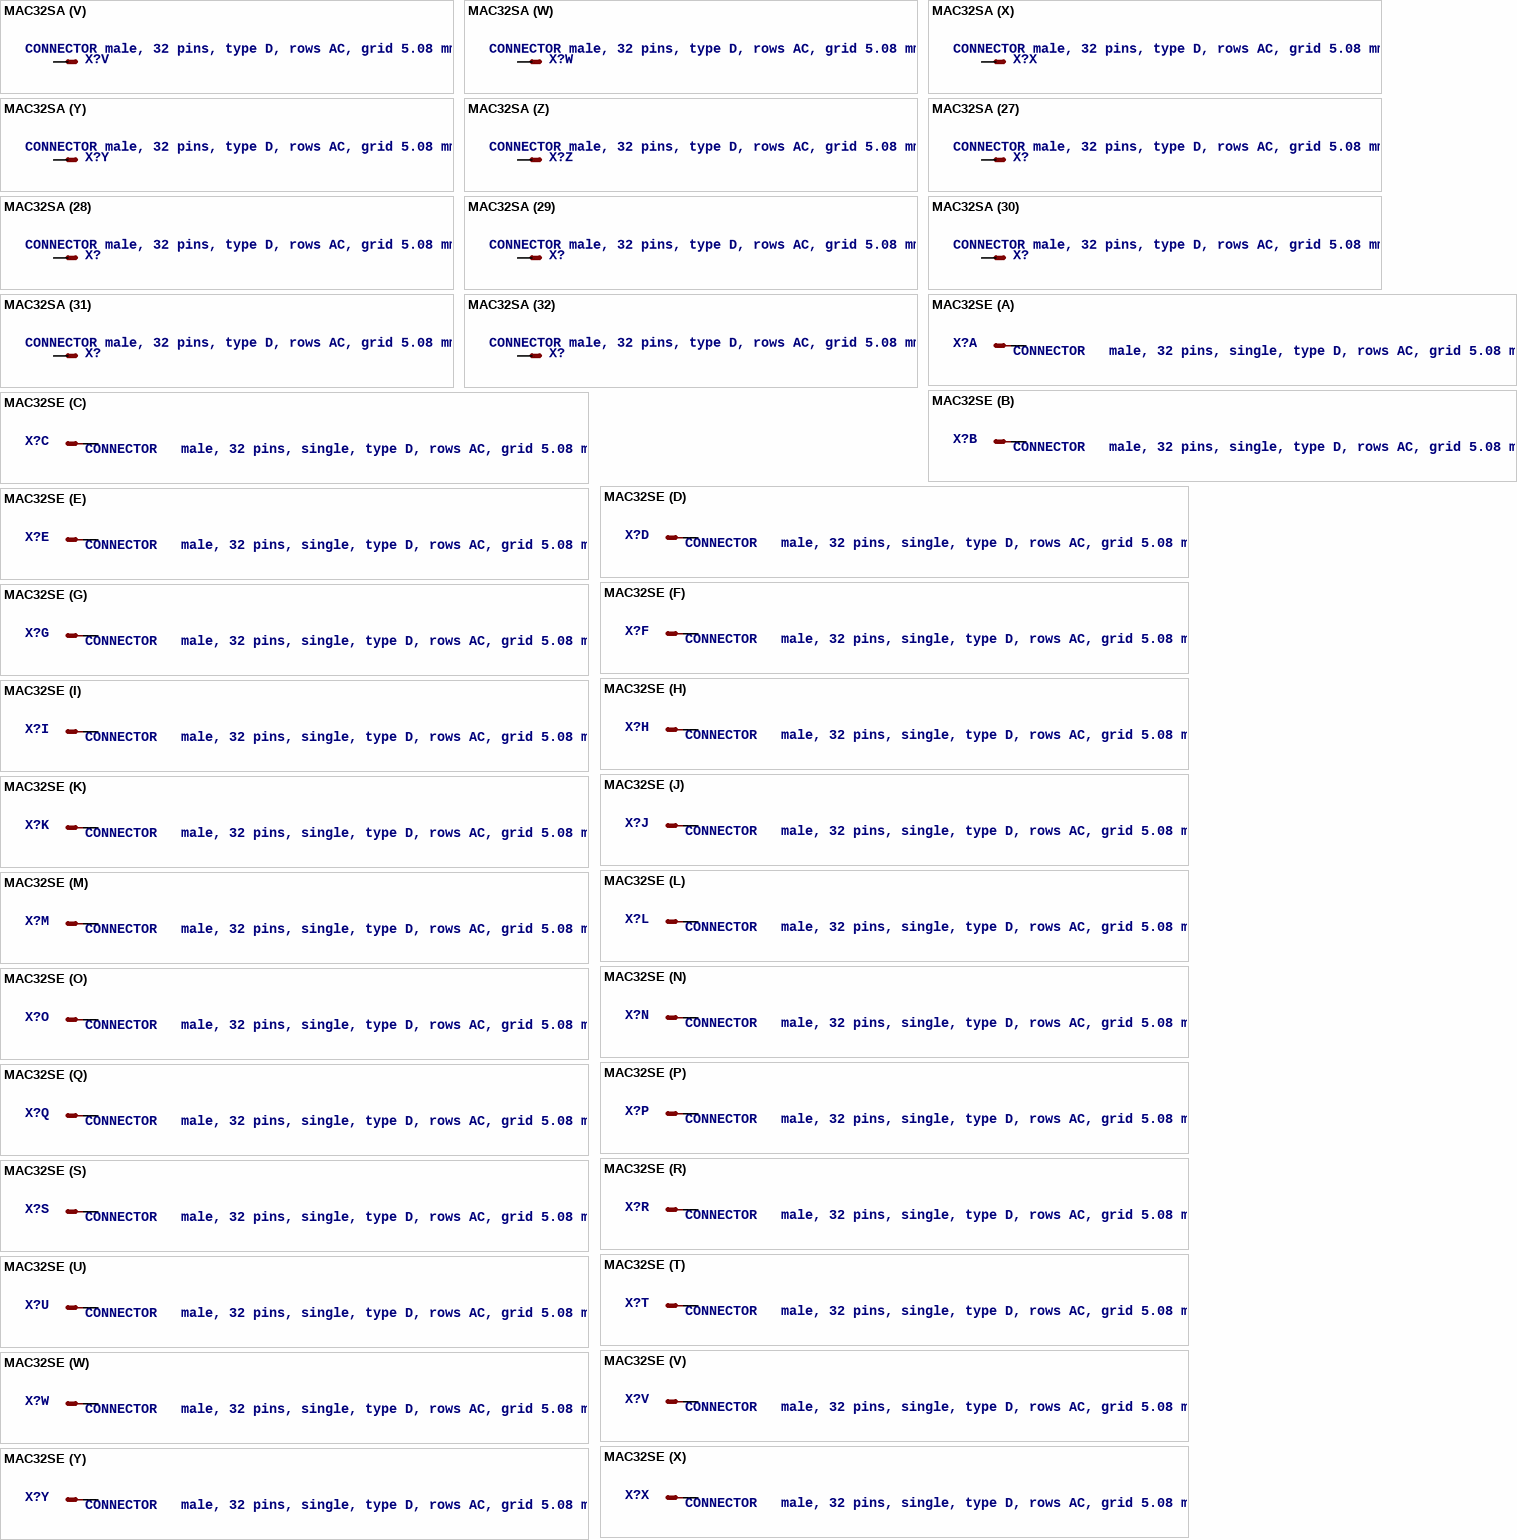
[diagram p80: symbols MAC32SA to MAC32SE]

## MAC32SA
designator X?, comment CONNECTOR male, 32 pins, type D, rows AC, grid 5.08 mm
footprint MAC32SA
part A pins: A2 S
part B pins: A4 S
part C pins: A6 S
part D pins: A8 S
part E pins: A10 S
part F pins: A12 S
part G pins: A14 S
part H pins: A16 S
part I pins: A18 S
part J pins: A20 S
part K pins: A22 S
part L pins: A24 S
part M pins: A26 S
part N pins: A28 S
part O pins: A30 S
part P pins: A32 S
part Q pins: C2 S
part R pins: C4 S
part S pins: C6 S
part T pins: C8 S
part U pins: C10 S
part V pins: C12 S
part W pins: C14 S
part X pins: C16 S
part Y pins: C18 S
part Z pins: C20 S
part 27 pins: C22 S
part 28 pins: C24 S
part 29 pins: C26 S
part 30 pins: C28 S
part 31 pins: C30 S
part 32 pins: C32 S

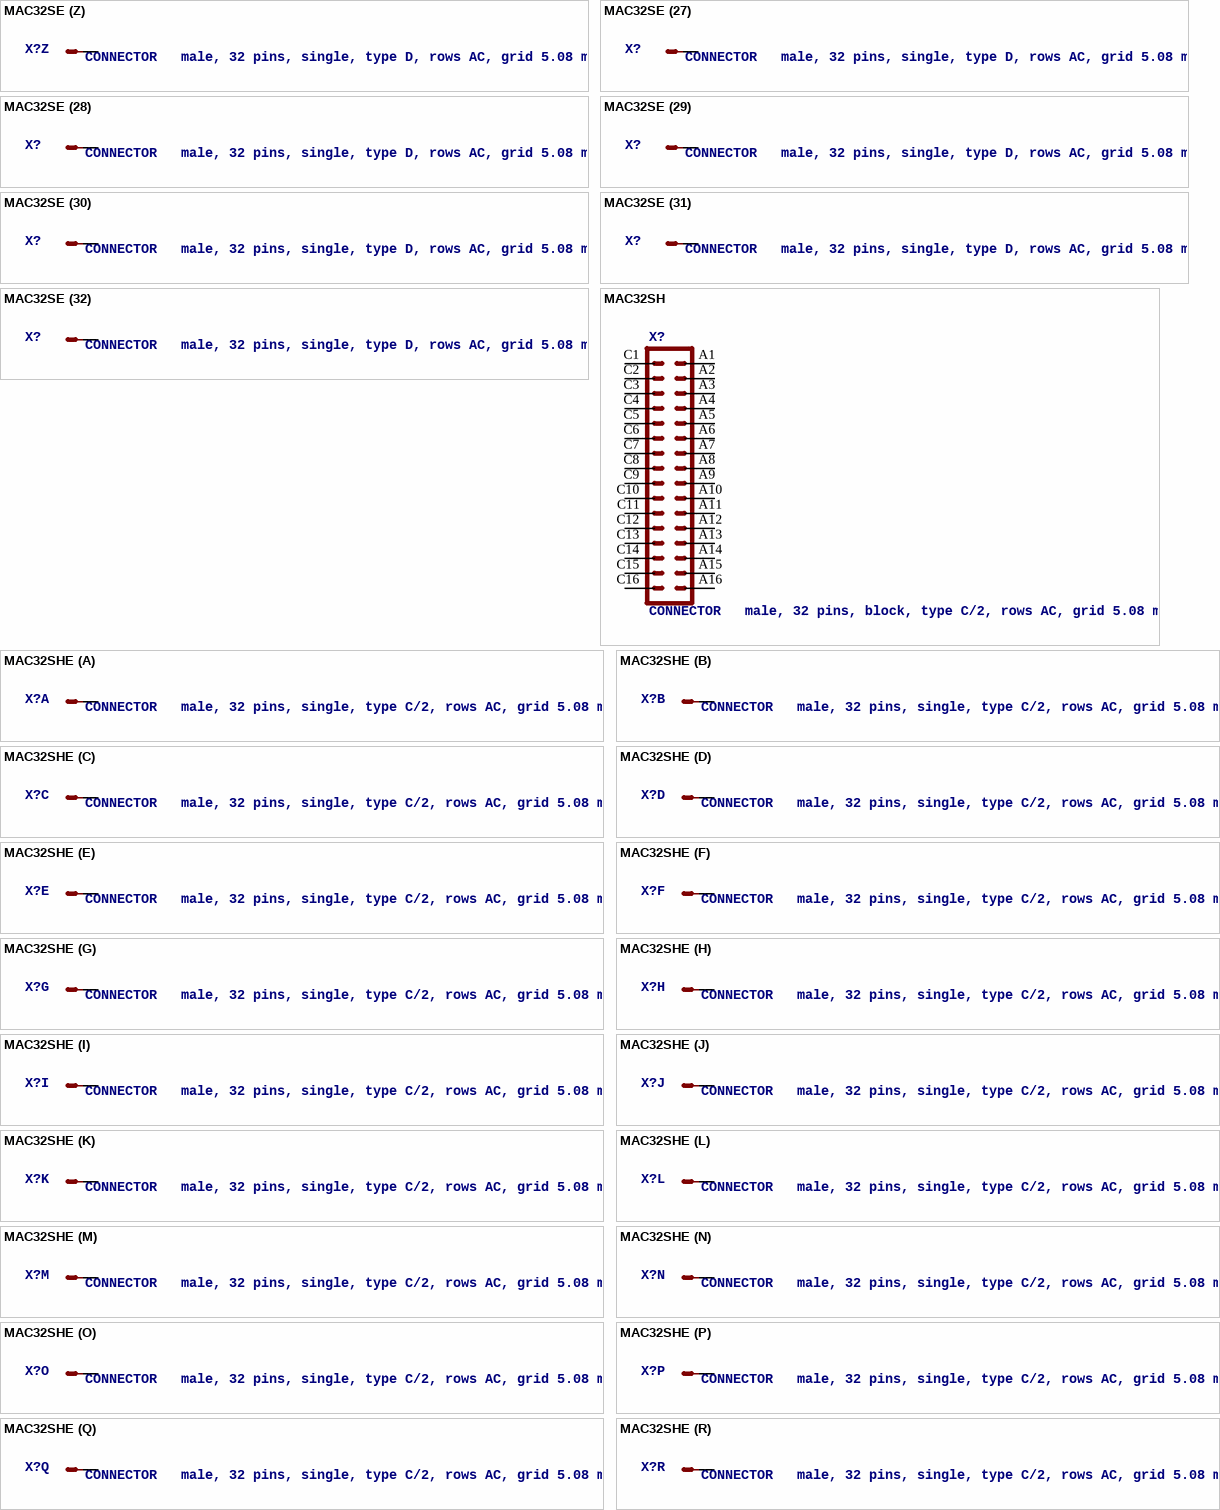
[diagram p81: symbols MAC32SE to MAC32SHE]

## MAC32SE
designator X?, comment CONNECTOR   male, 32 pins, single, type D, rows AC, grid 5.08 mm
footprint MAC32S
part A pins: A2 S
part B pins: A4 S
part C pins: A6 S
part D pins: A8 S
part E pins: A10 S
part F pins: A12 S
part G pins: A14 S
part H pins: A16 S
part I pins: A18 S
part J pins: A20 S
part K pins: A22 S
part L pins: A24 S
part M pins: A26 S
part N pins: A28 S
part O pins: A30 S
part P pins: A32 S
part Q pins: C2 S
part R pins: C4 S
part S pins: C6 S
part T pins: C8 S
part U pins: C10 S
part V pins: C12 S
part W pins: C14 S
part X pins: C16 S
part Y pins: C18 S
part Z pins: C20 S
part 27 pins: C22 S
part 28 pins: C24 S
part 29 pins: C26 S
part 30 pins: C28 S
part 31 pins: C30 S
part 32 pins: C32 S

## MAC32SH
designator X?, comment CONNECTOR   male, 32 pins, block, type C/2, rows AC, grid 5.08 mm
footprint MAC32SH
pins: A1, A2, A3, A4, A5, A6, A7, A8, A9, A10, A11, A12, A13, A14, A15, A16, C1, C2, C3, C4, C5, C6, C7, C8, C9, C10, C11, C12, C13, C14, C15, C16

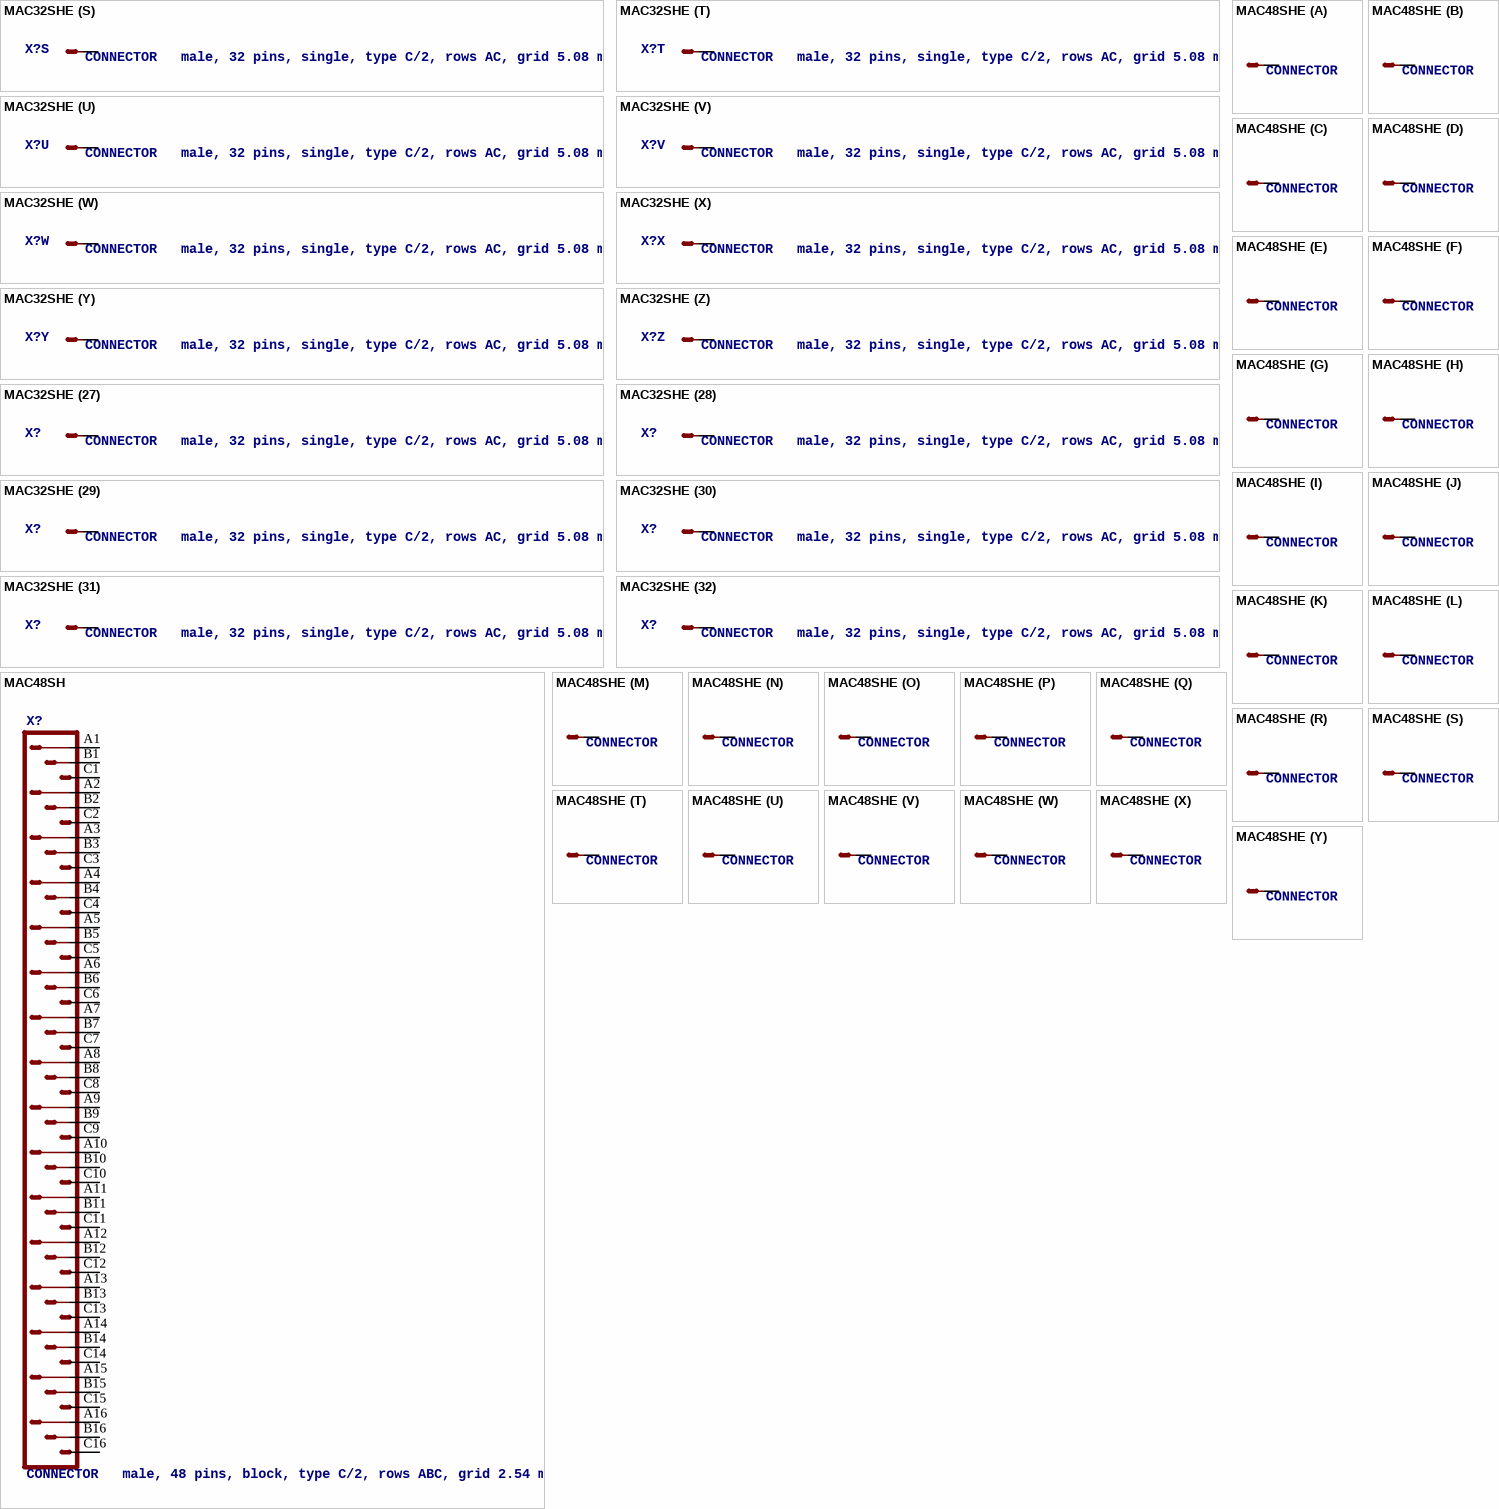
[diagram p82: symbols MAC32SHE to MAC48SHE]

## MAC32SHE
designator X?, comment CONNECTOR   male, 32 pins, single, type C/2, rows AC, grid 5.08 mm
footprint MAC32SH
part A pins: A1 S
part B pins: A2 S
part C pins: A3 S
part D pins: A4 S
part E pins: A5 S
part F pins: A6 S
part G pins: A7 S
part H pins: A8 S
part I pins: A9 S
part J pins: A10 S
part K pins: A11 S
part L pins: A12 S
part M pins: A13 S
part N pins: A14 S
part O pins: A15 S
part P pins: A16 S
part Q pins: C1 S
part R pins: C2 S
part S pins: C3 S
part T pins: C4 S
part U pins: C5 S
part V pins: C6 S
part W pins: C7 S
part X pins: C8 S
part Y pins: C9 S
part Z pins: C10 S
part 27 pins: C11 S
part 28 pins: C12 S
part 29 pins: C13 S
part 30 pins: C14 S
part 31 pins: C15 S
part 32 pins: C16 S

## MAC48SH
designator X?, comment CONNECTOR   male, 48 pins, block, type C/2, rows ABC, grid 2.54 mm
footprint MAC48SH
pins: A1, A2, A3, A4, A5, A6, A7, A8, A9, A10, A11, A12, A13, A14, A15, A16, B1, B2, B3, B4, B5, B6, B7, B8, B9, B10, B11, B12, B13, B14, B15, B16, C1, C2, C3, C4, C5, C6, C7, C8, C9, C10, C11, C12, C13, C14, C15, C16

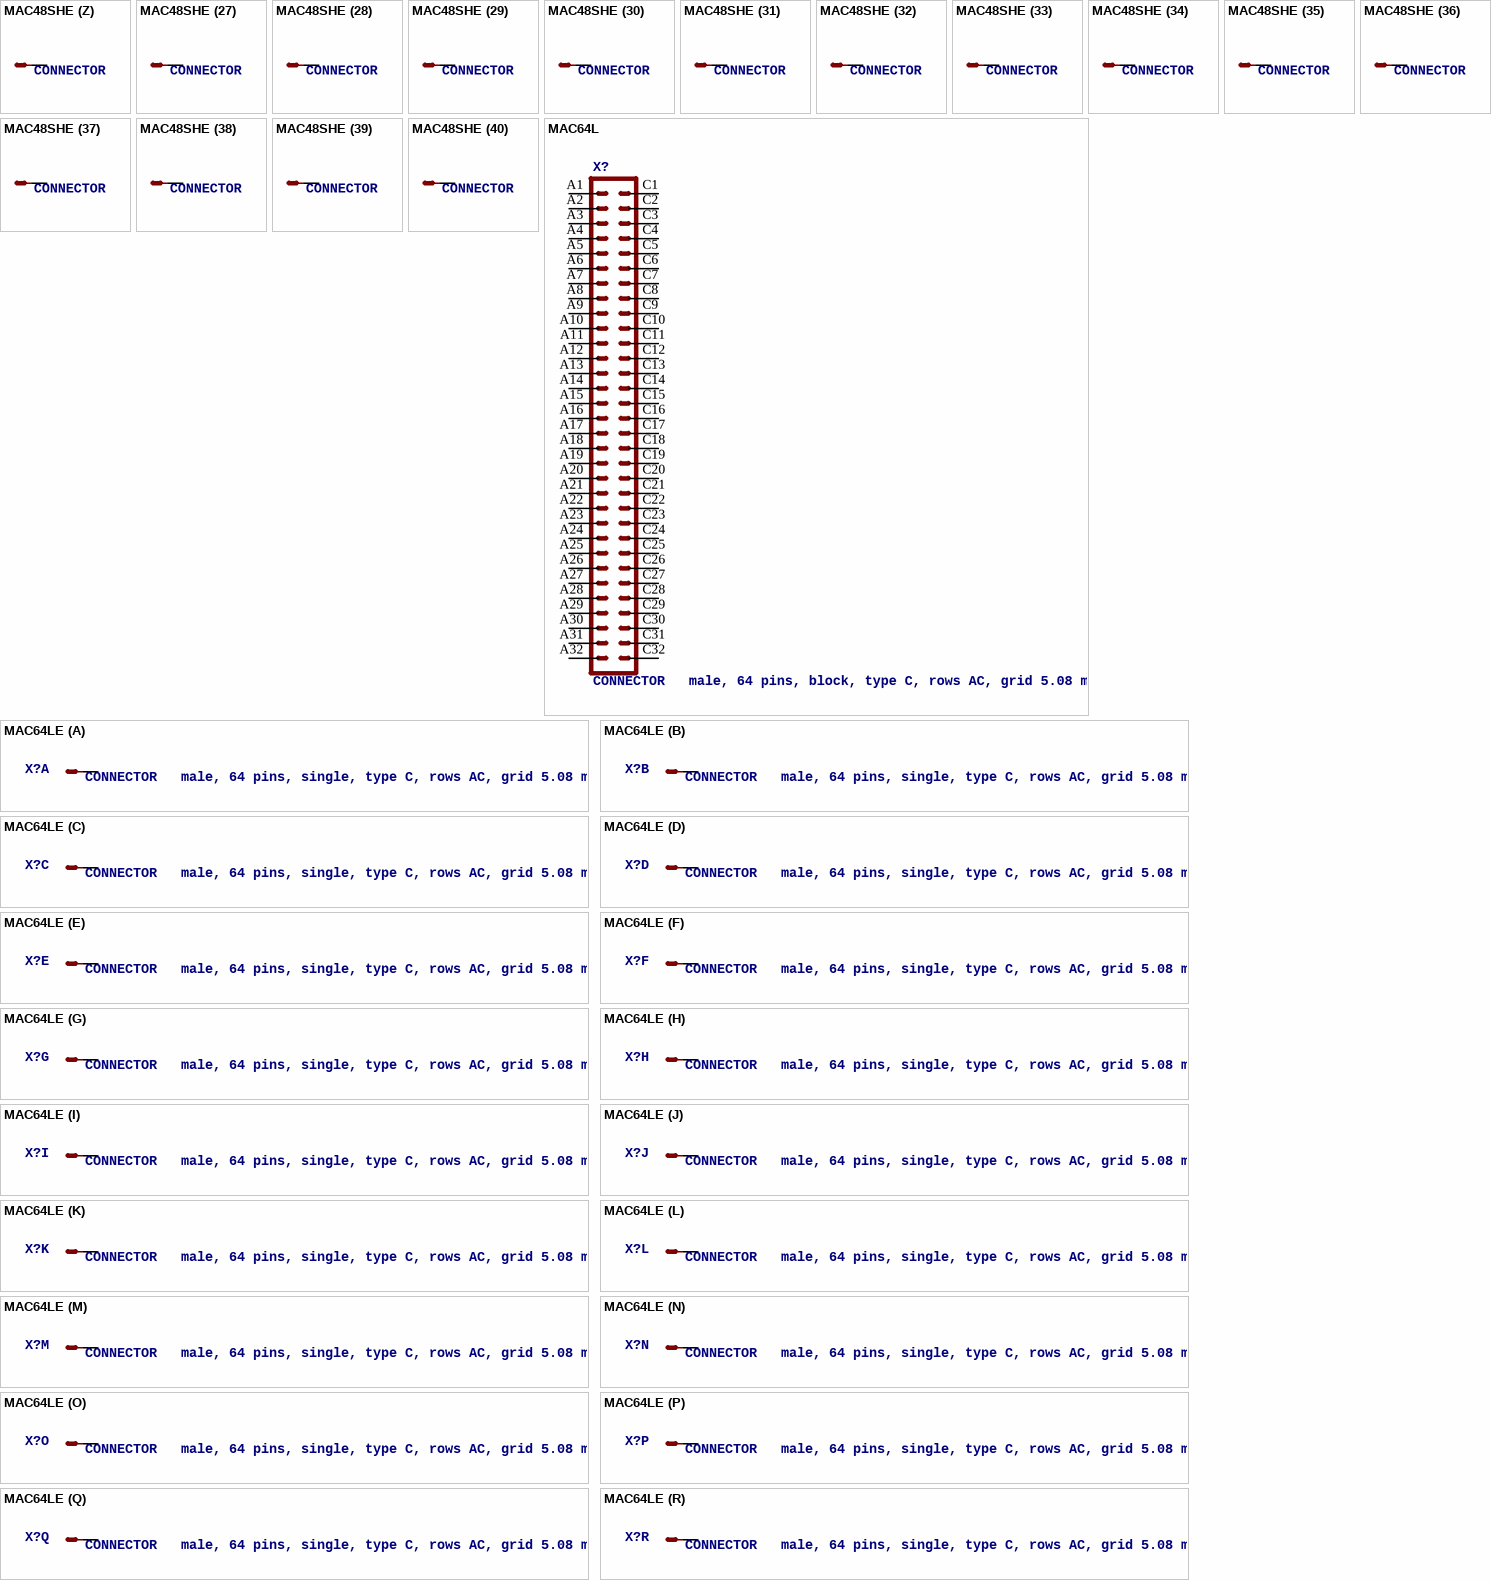
[diagram p83: symbols MAC48SHE to MAC64LE]

## MAC48SHE
designator X?, comment CONNECTOR   male, 48 pins, single, type C/2, rows ABC, grid 2.54 mm
footprint MAC48SH
part A pins: A1 S
part B pins: A2 S
part C pins: A3 S
part D pins: A4 S
part E pins: A5 S
part F pins: A6 S
part G pins: A7 S
part H pins: A8 S
part I pins: A9 S
part J pins: A10 S
part K pins: A11 S
part L pins: A12 S
part M pins: A13 S
part N pins: A14 S
part O pins: A15 S
part P pins: A16 S
part Q pins: B1 S
part R pins: B2 S
part S pins: B3 S
part T pins: B4 S
part U pins: B5 S
part V pins: B6 S
part W pins: B7 S
part X pins: B8 S
part Y pins: B9 S
part Z pins: B10 S
part 27 pins: B11 S
part 28 pins: B12 S
part 29 pins: B13 S
part 30 pins: B14 S
part 31 pins: B15 S
part 32 pins: B16 S
part 33 pins: C1 S
part 34 pins: C2 S
part 35 pins: C3 S
part 36 pins: C4 S
part 37 pins: C5 S
part 38 pins: C6 S
part 39 pins: C7 S
part 40 pins: C8 S
part 41 pins: C9 S
part 42 pins: C10 S
part 43 pins: C11 S
part 44 pins: C12 S
part 45 pins: C13 S
part 46 pins: C14 S
part 47 pins: C15 S
part 48 pins: C16 S

## MAC64L
designator X?, comment CONNECTOR   male, 64 pins, block, type C, rows AC, grid 5.08 mm
footprint MAC64L
pins: A1, A2, A3, A4, A5, A6, A7, A8, A9, A10, A11, A12, A13, A14, A15, A16, A17, A18, A19, A20, A21, A22, A23, A24, A25, A26, A27, A28, A29, A30, A31, A32, C1, C2, C3, C4, C5, C6, C7, C8, C9, C10, C11, C12, C13, C14, C15, C16, C17, C18, C19, C20, C21, C22, C23, C24, C25, C26, C27, C28, C29, C30, C31, C32

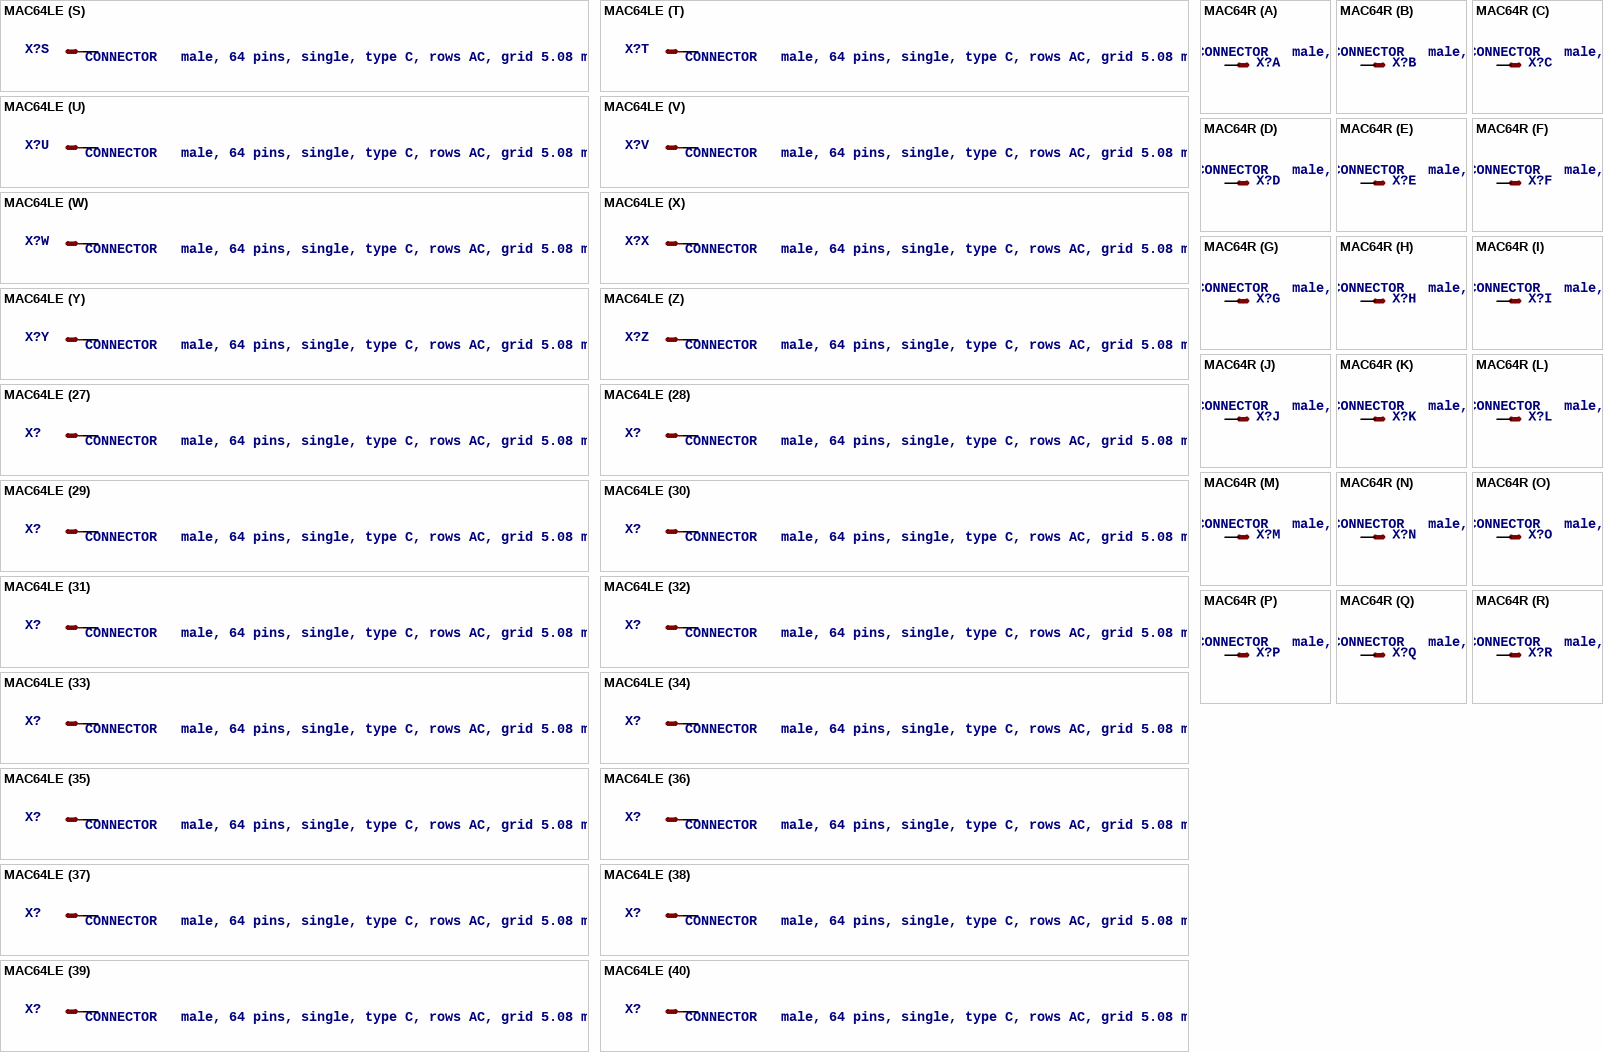
[diagram p84: symbols MAC64LE to MAC64R]

## MAC64LE
designator X?, comment CONNECTOR   male, 64 pins, single, type C, rows AC, grid 5.08 mm
footprint MAC64L
part A pins: A1 S
part B pins: A2 S
part C pins: A3 S
part D pins: A4 S
part E pins: A5 S
part F pins: A6 S
part G pins: A7 S
part H pins: A8 S
part I pins: A9 S
part J pins: A10 S
part K pins: A11 S
part L pins: A12 S
part M pins: A13 S
part N pins: A14 S
part O pins: A15 S
part P pins: A16 S
part Q pins: A17 S
part R pins: A18 S
part S pins: A19 S
part T pins: A20 S
part U pins: A21 S
part V pins: A22 S
part W pins: A23 S
part X pins: A24 S
part Y pins: A25 S
part Z pins: A26 S
part 27 pins: A27 S
part 28 pins: A28 S
part 29 pins: A29 S
part 30 pins: A30 S
part 31 pins: A31 S
part 32 pins: A32 S
part 33 pins: C1 S
part 34 pins: C2 S
part 35 pins: C3 S
part 36 pins: C4 S
part 37 pins: C5 S
part 38 pins: C6 S
part 39 pins: C7 S
part 40 pins: C8 S
part 41 pins: C9 S
part 42 pins: C10 S
part 43 pins: C11 S
part 44 pins: C12 S
part 45 pins: C13 S
part 46 pins: C14 S
part 47 pins: C15 S
part 48 pins: C16 S
part 49 pins: C17 S
part 50 pins: C18 S
part 51 pins: C19 S
part 52 pins: C20 S
part 53 pins: C21 S
part 54 pins: C22 S
part 55 pins: C23 S
part 56 pins: C24 S
part 57 pins: C25 S
part 58 pins: C26 S
part 59 pins: C27 S
part 60 pins: C28 S
part 61 pins: C29 S
part 62 pins: C30 S
part 63 pins: C31 S
part 64 pins: C32 S

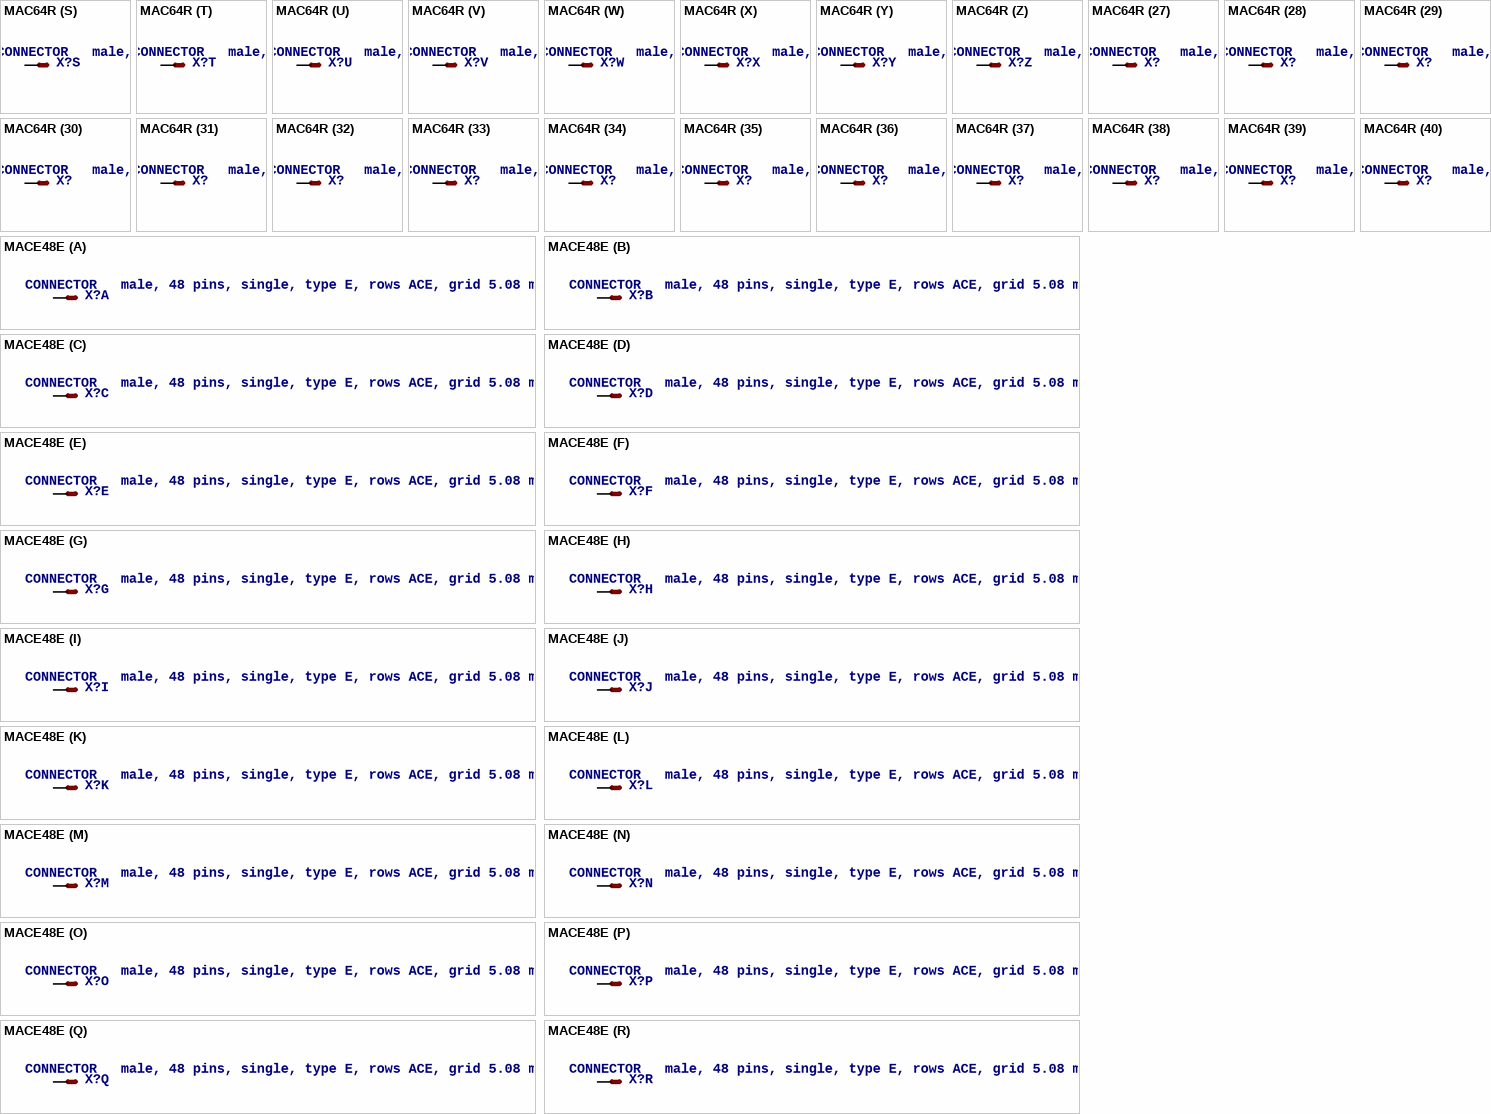
[diagram p85: symbols MAC64R to MACE48E]

## MAC64R
designator X?, comment CONNECTOR   male, 64 pins, single, type R, rows AC, grid 5.08 mm   with mounting clip
footprint MAC64R
part A pins: A1 S
part B pins: A2 S
part C pins: A3 S
part D pins: A4 S
part E pins: A5 S
part F pins: A6 S
part G pins: A7 S
part H pins: A8 S
part I pins: A9 S
part J pins: A10 S
part K pins: A11 S
part L pins: A12 S
part M pins: A13 S
part N pins: A14 S
part O pins: A15 S
part P pins: A16 S
part Q pins: A17 S
part R pins: A18 S
part S pins: A19 S
part T pins: A20 S
part U pins: A21 S
part V pins: A22 S
part W pins: A23 S
part X pins: A24 S
part Y pins: A25 S
part Z pins: A26 S
part 27 pins: A27 S
part 28 pins: A28 S
part 29 pins: A29 S
part 30 pins: A30 S
part 31 pins: A31 S
part 32 pins: A32 S
part 33 pins: C1 S
part 34 pins: C2 S
part 35 pins: C3 S
part 36 pins: C4 S
part 37 pins: C5 S
part 38 pins: C6 S
part 39 pins: C7 S
part 40 pins: C8 S
part 41 pins: C9 S
part 42 pins: C10 S
part 43 pins: C11 S
part 44 pins: C12 S
part 45 pins: C13 S
part 46 pins: C14 S
part 47 pins: C15 S
part 48 pins: C16 S
part 49 pins: C17 S
part 50 pins: C18 S
part 51 pins: C19 S
part 52 pins: C20 S
part 53 pins: C21 S
part 54 pins: C22 S
part 55 pins: C23 S
part 56 pins: C24 S
part 57 pins: C25 S
part 58 pins: C26 S
part 59 pins: C27 S
part 60 pins: C28 S
part 61 pins: C29 S
part 62 pins: C30 S
part 63 pins: C31 S
part 64 pins: C32 S

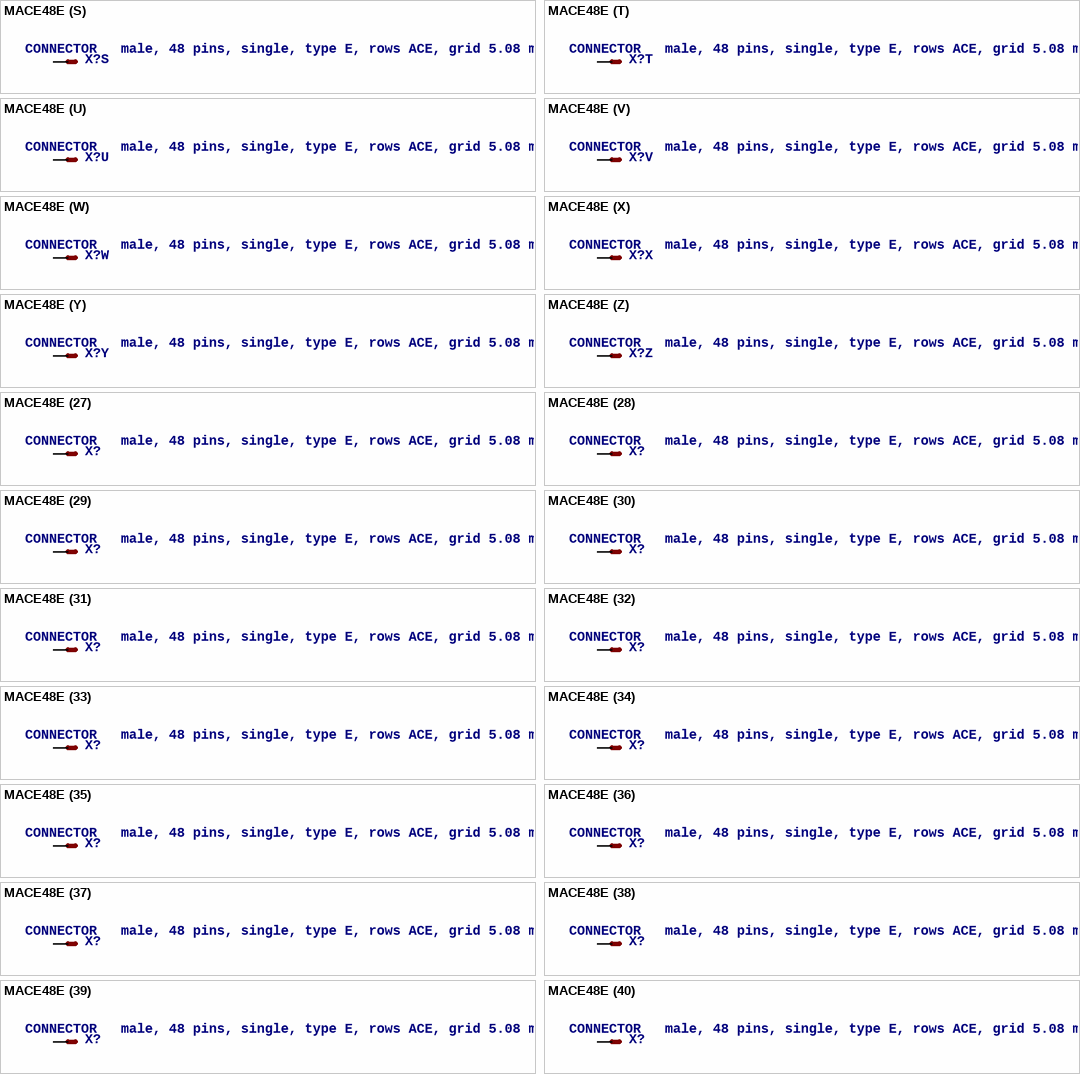
[diagram p86: symbol MACE48E]

## MACE48E
designator X?, comment CONNECTOR   male, 48 pins, single, type E, rows ACE, grid 5.08 mm
footprint MACE48E
part A pins: A2 S
part B pins: A4 S
part C pins: A6 S
part D pins: A8 S
part E pins: A10 S
part F pins: A12 S
part G pins: A14 S
part H pins: A16 S
part I pins: A18 S
part J pins: A20 S
part K pins: A22 S
part L pins: A24 S
part M pins: A26 S
part N pins: A28 S
part O pins: A30 S
part P pins: A32 S
part Q pins: C2 S
part R pins: C4 S
part S pins: C6 S
part T pins: C8 S
part U pins: C10 S
part V pins: C12 S
part W pins: C14 S
part X pins: C16 S
part Y pins: C18 S
part Z pins: C20 S
part 27 pins: C22 S
part 28 pins: C24 S
part 29 pins: C26 S
part 30 pins: C28 S
part 31 pins: C30 S
part 32 pins: C32 S
part 33 pins: E2 S
part 34 pins: E4 S
part 35 pins: E6 S
part 36 pins: E8 S
part 37 pins: E10 S
part 38 pins: E12 S
part 39 pins: E14 S
part 40 pins: E16 S
part 41 pins: E18 S
part 42 pins: E20 S
part 43 pins: E22 S
part 44 pins: E24 S
part 45 pins: E26 S
part 46 pins: E28 S
part 47 pins: E30 S
part 48 pins: E32 S

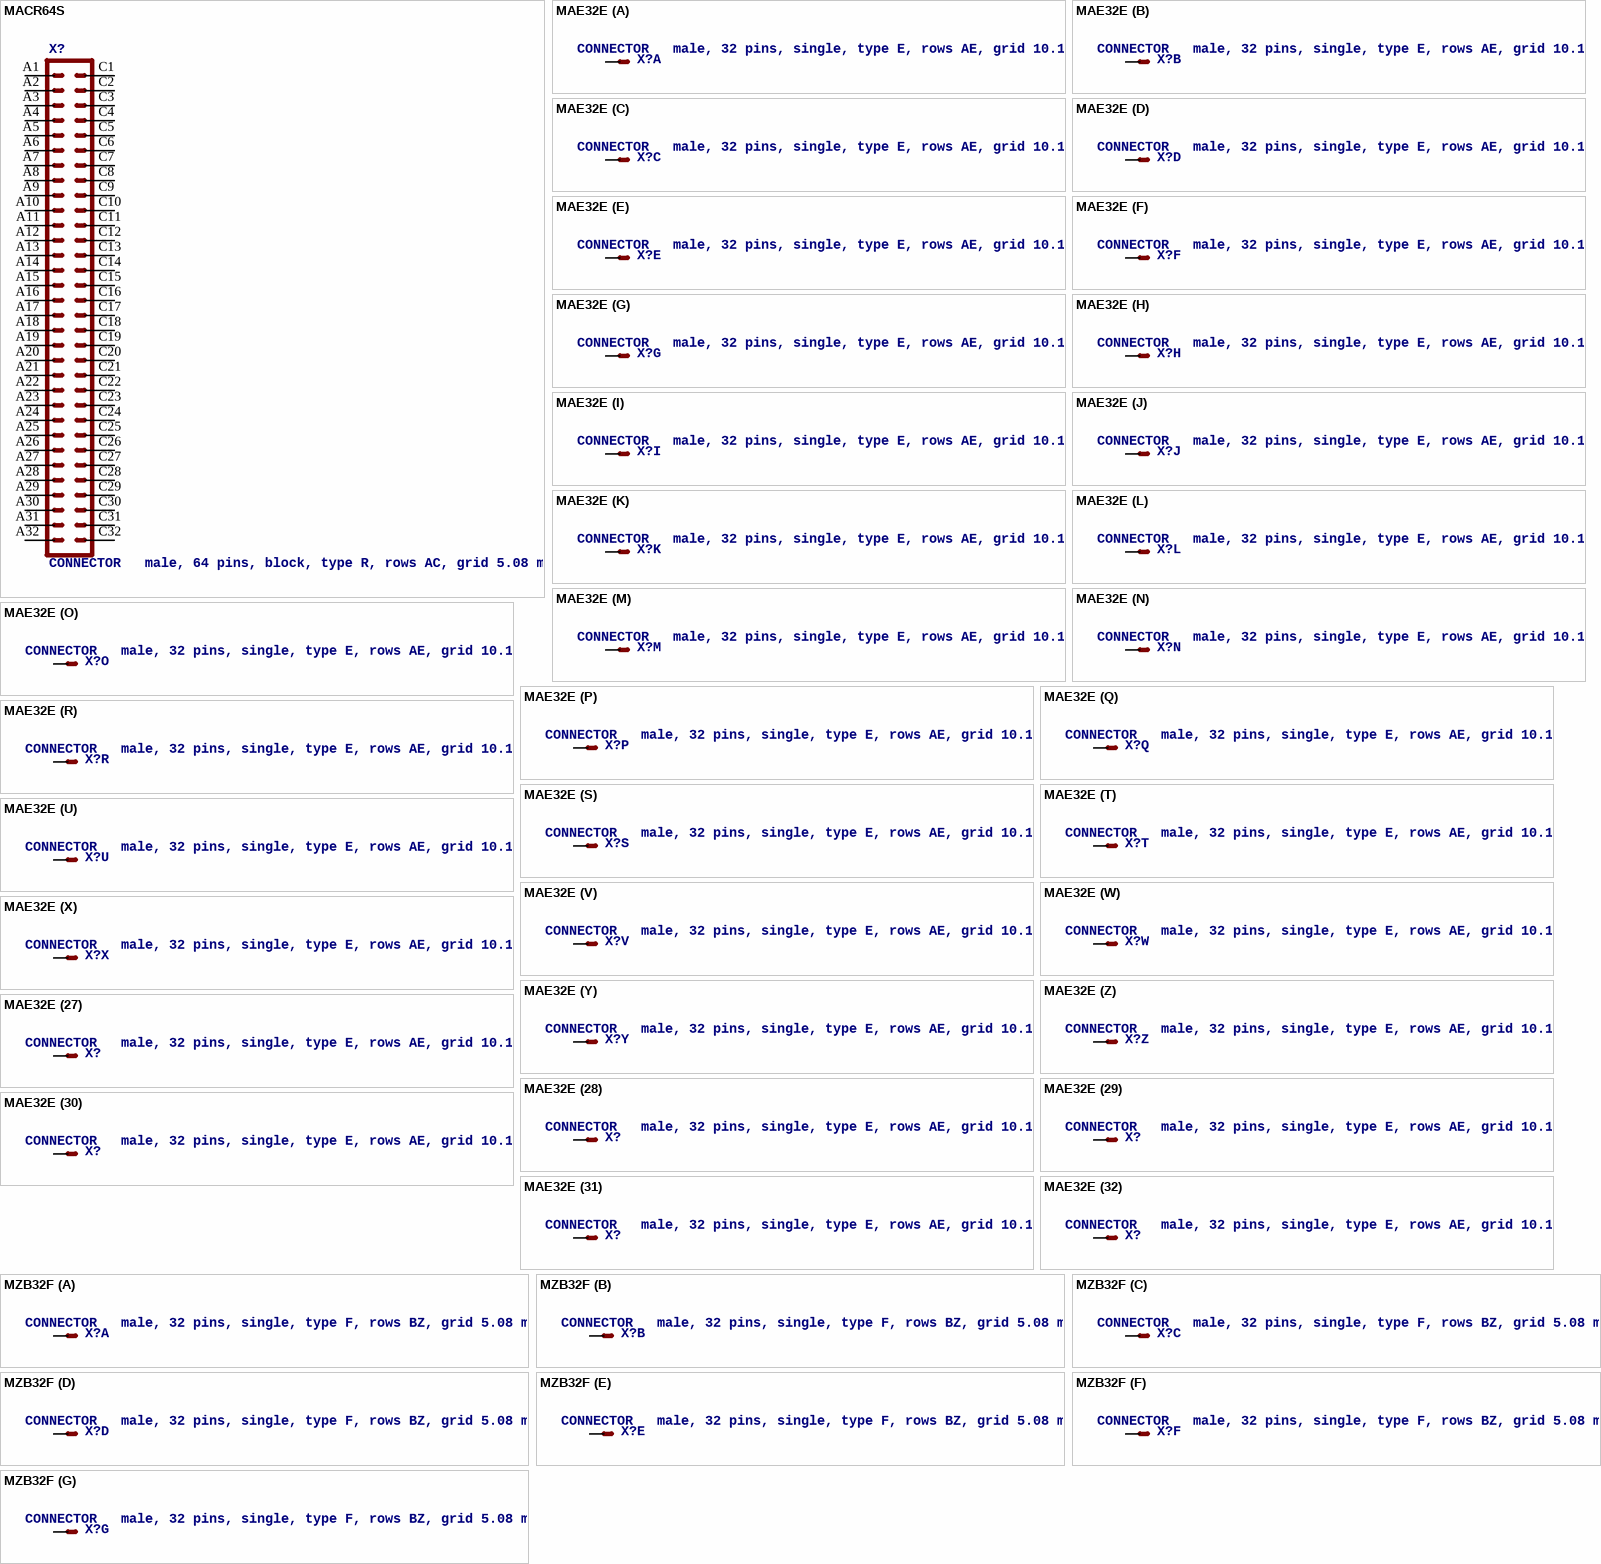
[diagram p87: symbols MACR64S to MZB32F]

## MACR64S
designator X?, comment CONNECTOR   male, 64 pins, block, type R, rows AC, grid 5.08 mm
footprint MACR64S
pins: A1, A2, A3, A4, A5, A6, A7, A8, A9, A10, A11, A12, A13, A14, A15, A16, A17, A18, A19, A20, A21, A22, A23, A24, A25, A26, A27, A28, A29, A30, A31, A32, C1, C2, C3, C4, C5, C6, C7, C8, C9, C10, C11, C12, C13, C14, C15, C16, C17, C18, C19, C20, C21, C22, C23, C24, C25, C26, C27, C28, C29, C30, C31, C32

## MAE32E
designator X?, comment CONNECTOR   male, 32 pins, single, type E, rows AE, grid 10.16
footprint MAE32E
part A pins: A2 S
part B pins: A4 S
part C pins: A6 S
part D pins: A8 S
part E pins: A10 S
part F pins: A12 S
part G pins: A14 S
part H pins: A16 S
part I pins: A18 S
part J pins: A20 S
part K pins: A22 S
part L pins: A24 S
part M pins: A26 S
part N pins: A28 S
part O pins: A30 S
part P pins: A32 S
part Q pins: E2 S
part R pins: E4 S
part S pins: E6 S
part T pins: E8 S
part U pins: E10 S
part V pins: E12 S
part W pins: E14 S
part X pins: E16 S
part Y pins: E18 S
part Z pins: E20 S
part 27 pins: E22 S
part 28 pins: E24 S
part 29 pins: E26 S
part 30 pins: E28 S
part 31 pins: E30 S
part 32 pins: E32 S

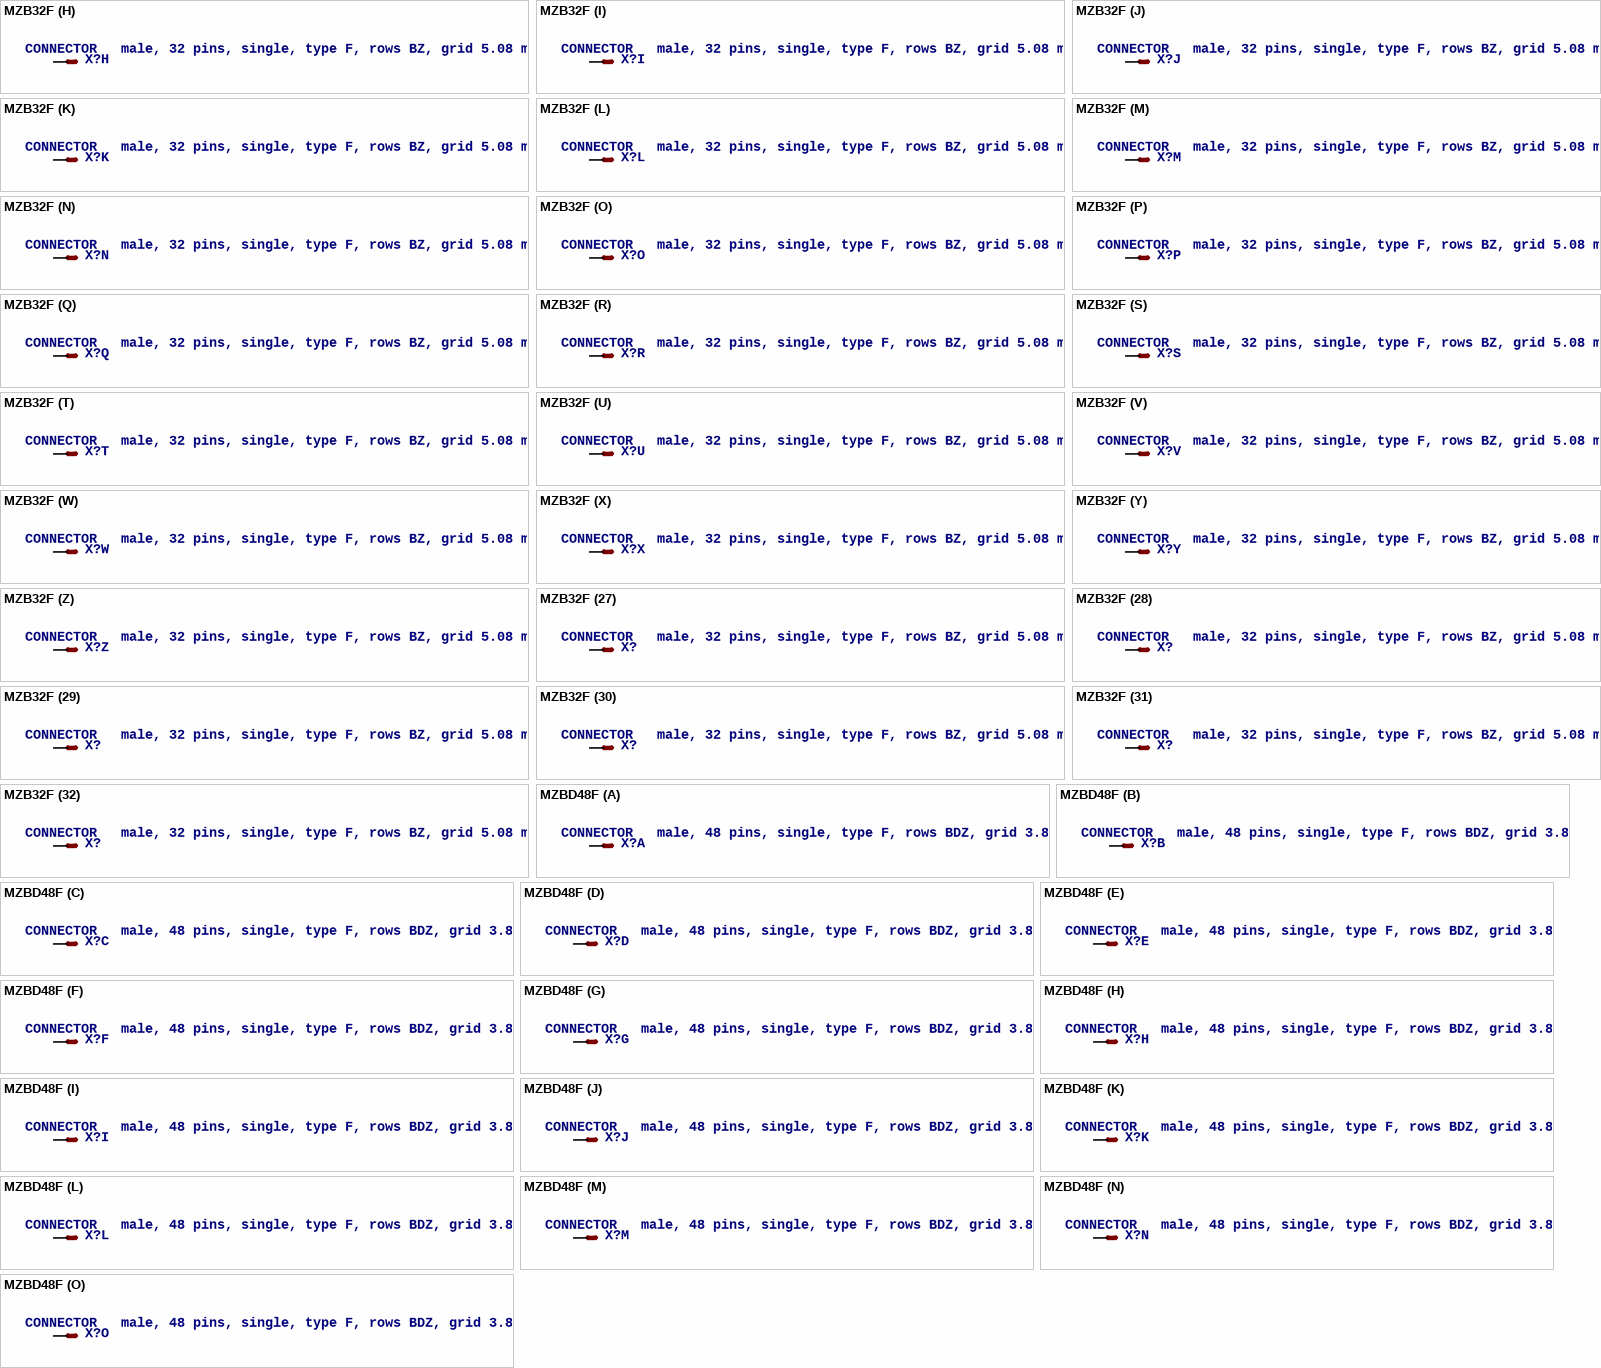
[diagram p88: symbols MZB32F to MZBD48F]

## MZB32F
designator X?, comment CONNECTOR   male, 32 pins, single, type F, rows BZ, grid 5.08 mm
footprint MZB32F
part A pins: Z2 S
part B pins: Z4 S
part C pins: Z6 S
part D pins: Z8 S
part E pins: Z10 S
part F pins: Z12 S
part G pins: Z14 S
part H pins: Z16 S
part I pins: Z18 S
part J pins: Z20 S
part K pins: Z22 S
part L pins: Z24 S
part M pins: Z26 S
part N pins: Z28 S
part O pins: Z30 S
part P pins: Z32 S
part Q pins: B2 S
part R pins: B4 S
part S pins: B6 S
part T pins: B8 S
part U pins: B10 S
part V pins: B12 S
part W pins: B14 S
part X pins: B16 S
part Y pins: B18 S
part Z pins: B20 S
part 27 pins: B22 S
part 28 pins: B24 S
part 29 pins: B26 S
part 30 pins: B28 S
part 31 pins: B30 S
part 32 pins: B32 S

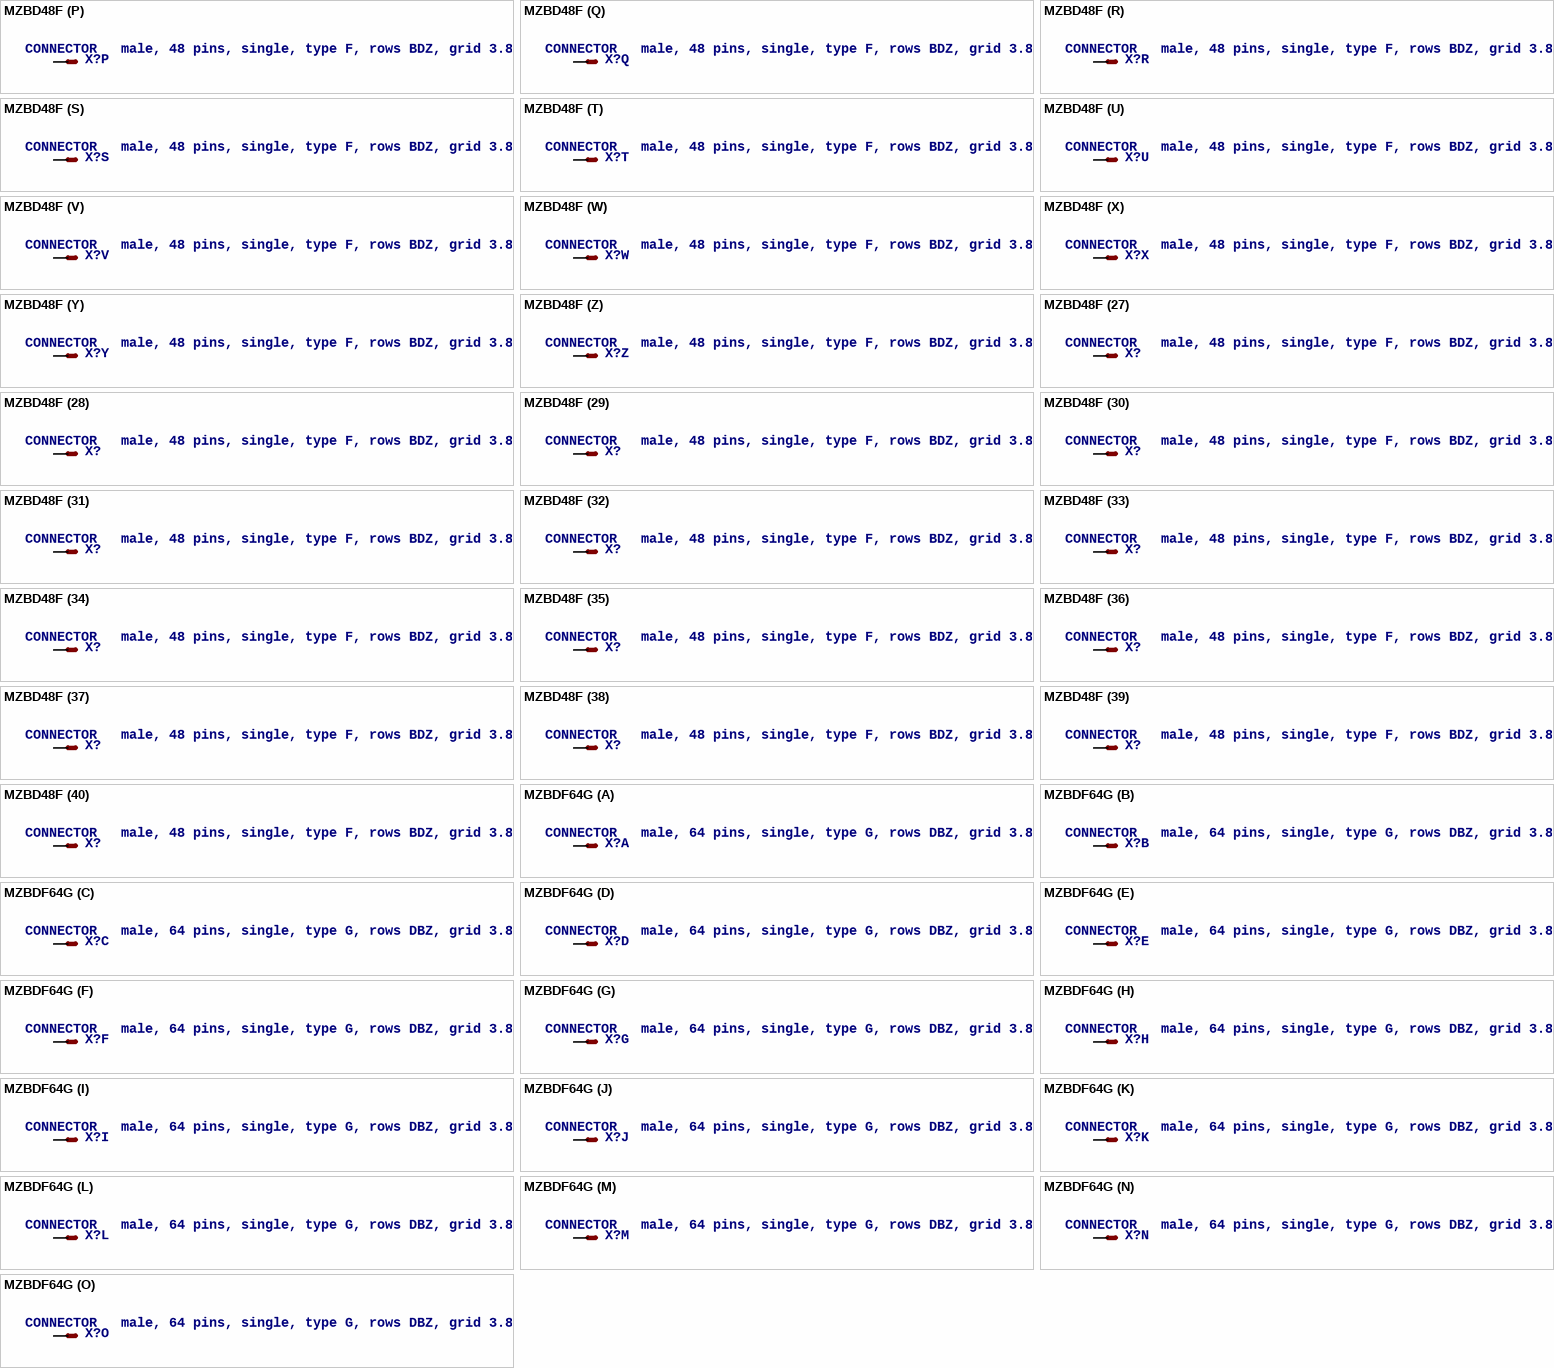
[diagram p89: symbols MZBD48F to MZBDF64G]

## MZBD48F
designator X?, comment CONNECTOR   male, 48 pins, single, type F, rows BDZ, grid 3.81
footprint MZBD48F
part A pins: Z2 S
part B pins: Z4 S
part C pins: Z6 S
part D pins: Z8 S
part E pins: Z10 S
part F pins: Z12 S
part G pins: Z14 S
part H pins: Z16 S
part I pins: Z18 S
part J pins: Z20 S
part K pins: Z22 S
part L pins: Z24 S
part M pins: Z26 S
part N pins: Z28 S
part O pins: Z30 S
part P pins: Z32 S
part Q pins: B2 S
part R pins: B4 S
part S pins: B6 S
part T pins: B8 S
part U pins: B10 S
part V pins: B12 S
part W pins: B14 S
part X pins: B16 S
part Y pins: B18 S
part Z pins: B20 S
part 27 pins: B22 S
part 28 pins: B24 S
part 29 pins: B26 S
part 30 pins: B28 S
part 31 pins: B30 S
part 32 pins: B32 S
part 33 pins: D2 S
part 34 pins: D4 S
part 35 pins: D6 S
part 36 pins: D8 S
part 37 pins: D10 S
part 38 pins: D12 S
part 39 pins: D14 S
part 40 pins: D16 S
part 41 pins: D18 S
part 42 pins: D20 S
part 43 pins: D22 S
part 44 pins: D24 S
part 45 pins: D26 S
part 46 pins: D28 S
part 47 pins: D30 S
part 48 pins: D32 S

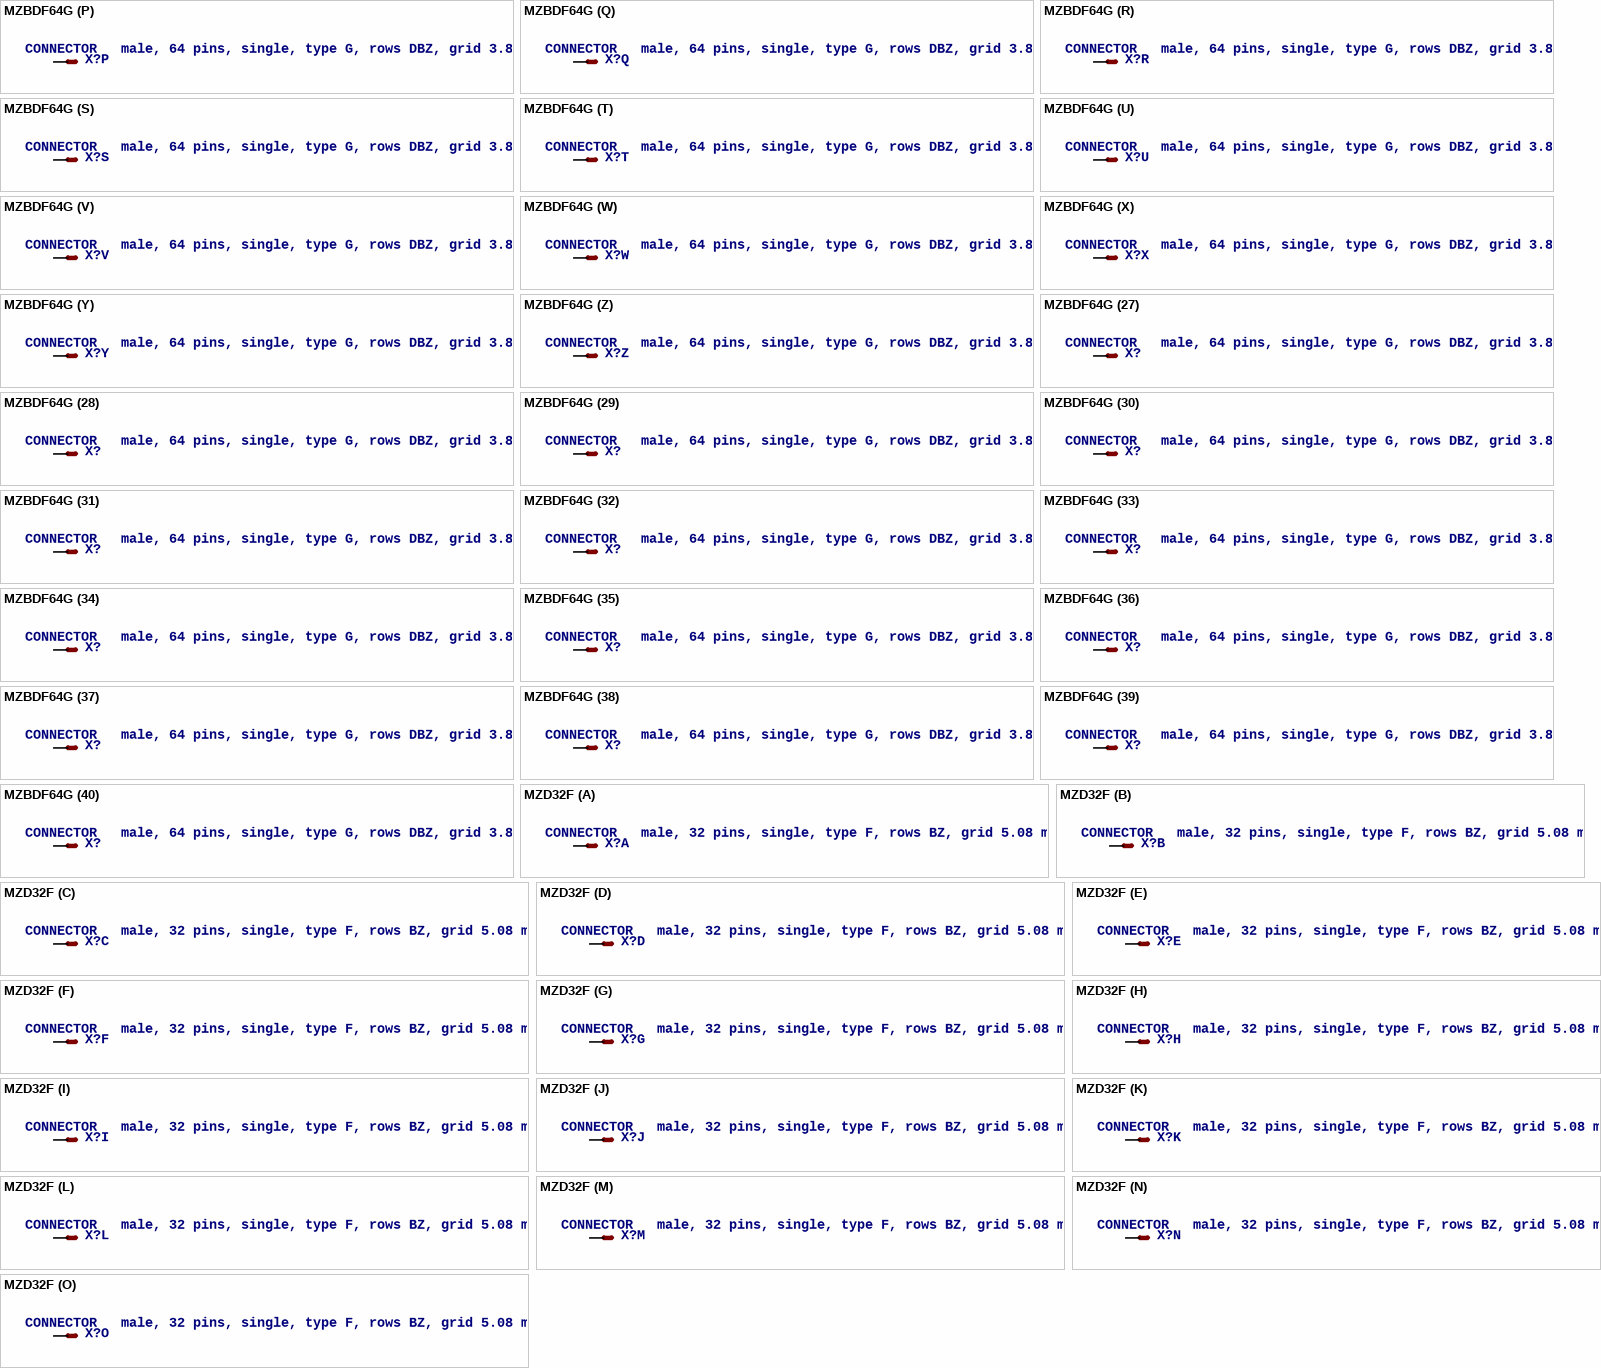
[diagram p90: symbols MZBDF64G to MZD32F]

## MZBDF64G
designator X?, comment CONNECTOR   male, 64 pins, single, type G, rows DBZ, grid 3.81
footprint MZBDF64G
part A pins: Z2 S
part B pins: Z4 S
part C pins: Z6 S
part D pins: Z8 S
part E pins: Z10 S
part F pins: Z12 S
part G pins: Z14 S
part H pins: Z16 S
part I pins: Z18 S
part J pins: Z20 S
part K pins: Z22 S
part L pins: Z24 S
part M pins: Z26 S
part N pins: Z28 S
part O pins: Z30 S
part P pins: Z32 S
part Q pins: B2 S
part R pins: B4 S
part S pins: B6 S
part T pins: B8 S
part U pins: B10 S
part V pins: B12 S
part W pins: B14 S
part X pins: B16 S
part Y pins: B18 S
part Z pins: B20 S
part 27 pins: B22 S
part 28 pins: B24 S
part 29 pins: B26 S
part 30 pins: B28 S
part 31 pins: B30 S
part 32 pins: B32 S
part 33 pins: D2 S
part 34 pins: D4 S
part 35 pins: D6 S
part 36 pins: D8 S
part 37 pins: D10 S
part 38 pins: D12 S
part 39 pins: D14 S
part 40 pins: D16 S
part 41 pins: D18 S
part 42 pins: D20 S
part 43 pins: D22 S
part 44 pins: D24 S
part 45 pins: D26 S
part 46 pins: D28 S
part 47 pins: D30 S
part 48 pins: D32 S
part 49 pins: F2 S
part 50 pins: F4 S
part 51 pins: F6 S
part 52 pins: F8 S
part 53 pins: F10 S
part 54 pins: F12 S
part 55 pins: F14 S
part 56 pins: F16 S
part 57 pins: F18 S
part 58 pins: F20 S
part 59 pins: F22 S
part 60 pins: F24 S
part 61 pins: F26 S
part 62 pins: F28 S
part 63 pins: F30 S
part 64 pins: F32 S

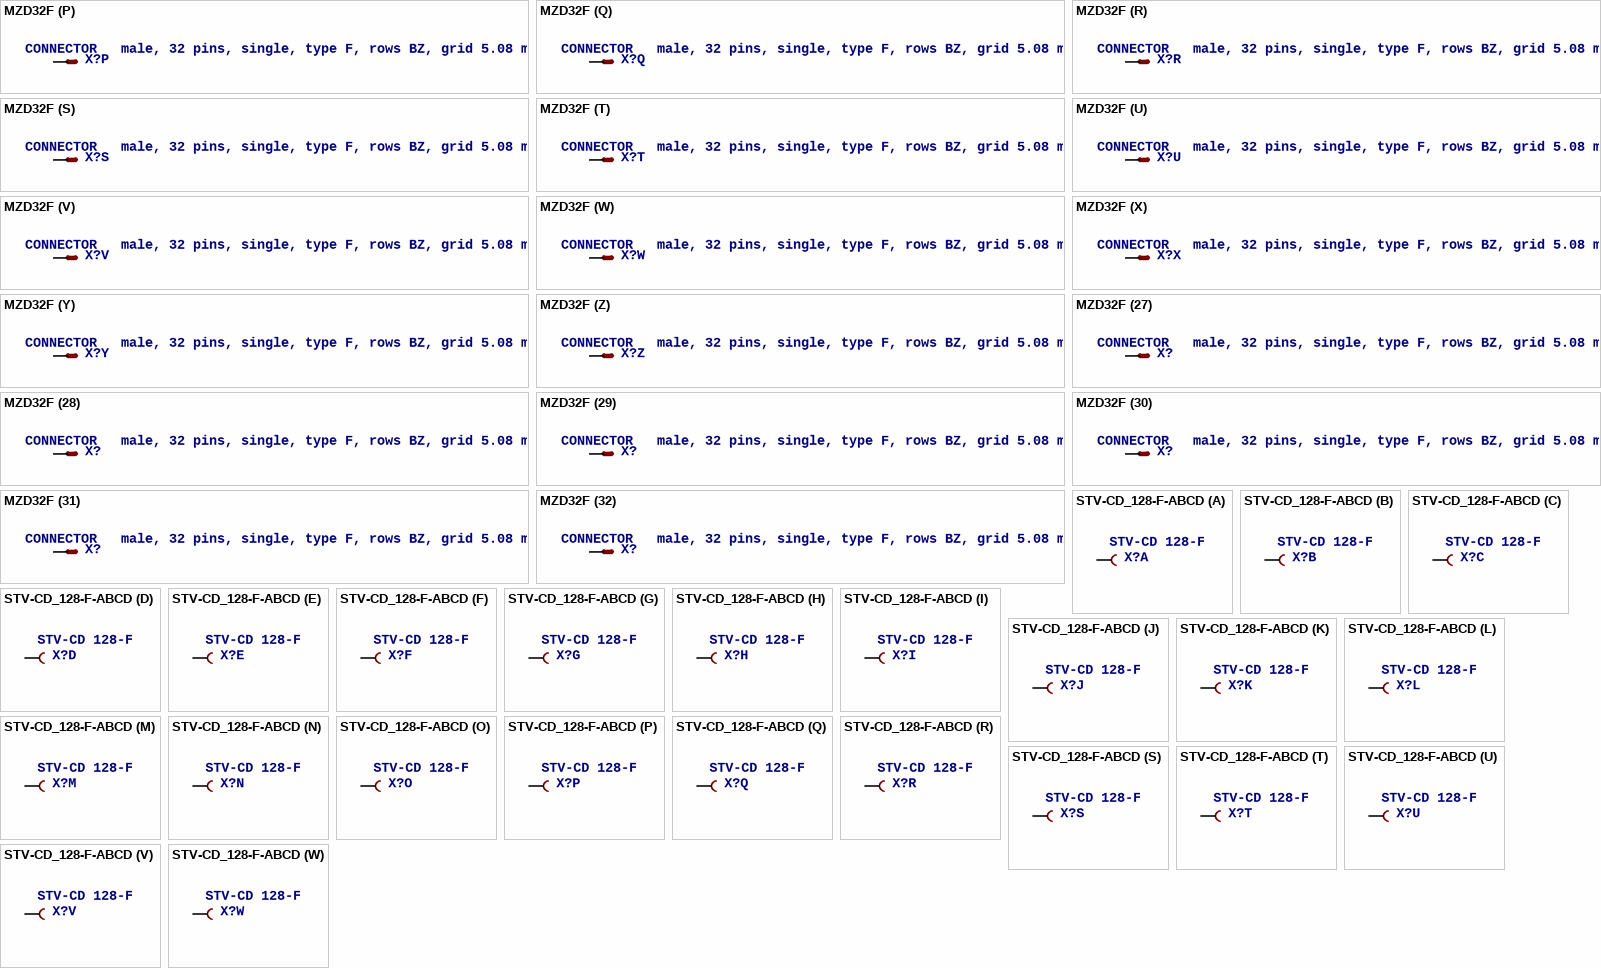
[diagram p91: symbols MZD32F to STV-CD_128-F-ABCD]

## MZD32F
designator X?, comment CONNECTOR   male, 32 pins, single, type F, rows BZ, grid 5.08 mm
footprint MZD32F
part A pins: Z2 S
part B pins: Z4 S
part C pins: Z6 S
part D pins: Z8 S
part E pins: Z10 S
part F pins: Z12 S
part G pins: Z14 S
part H pins: Z16 S
part I pins: Z18 S
part J pins: Z20 S
part K pins: Z22 S
part L pins: Z24 S
part M pins: Z26 S
part N pins: Z28 S
part O pins: Z30 S
part P pins: Z32 S
part Q pins: D2 S
part R pins: D4 S
part S pins: D6 S
part T pins: D8 S
part U pins: D10 S
part V pins: D12 S
part W pins: D14 S
part X pins: D16 S
part Y pins: D18 S
part Z pins: D20 S
part 27 pins: D22 S
part 28 pins: D24 S
part 29 pins: D26 S
part 30 pins: D28 S
part 31 pins: D30 S
part 32 pins: D32 S